# Altium schematic symbol library HW_ADHERENT_SYSCTRL_R1_L3.SchLib: 1629 symbols (part 30 of 31)
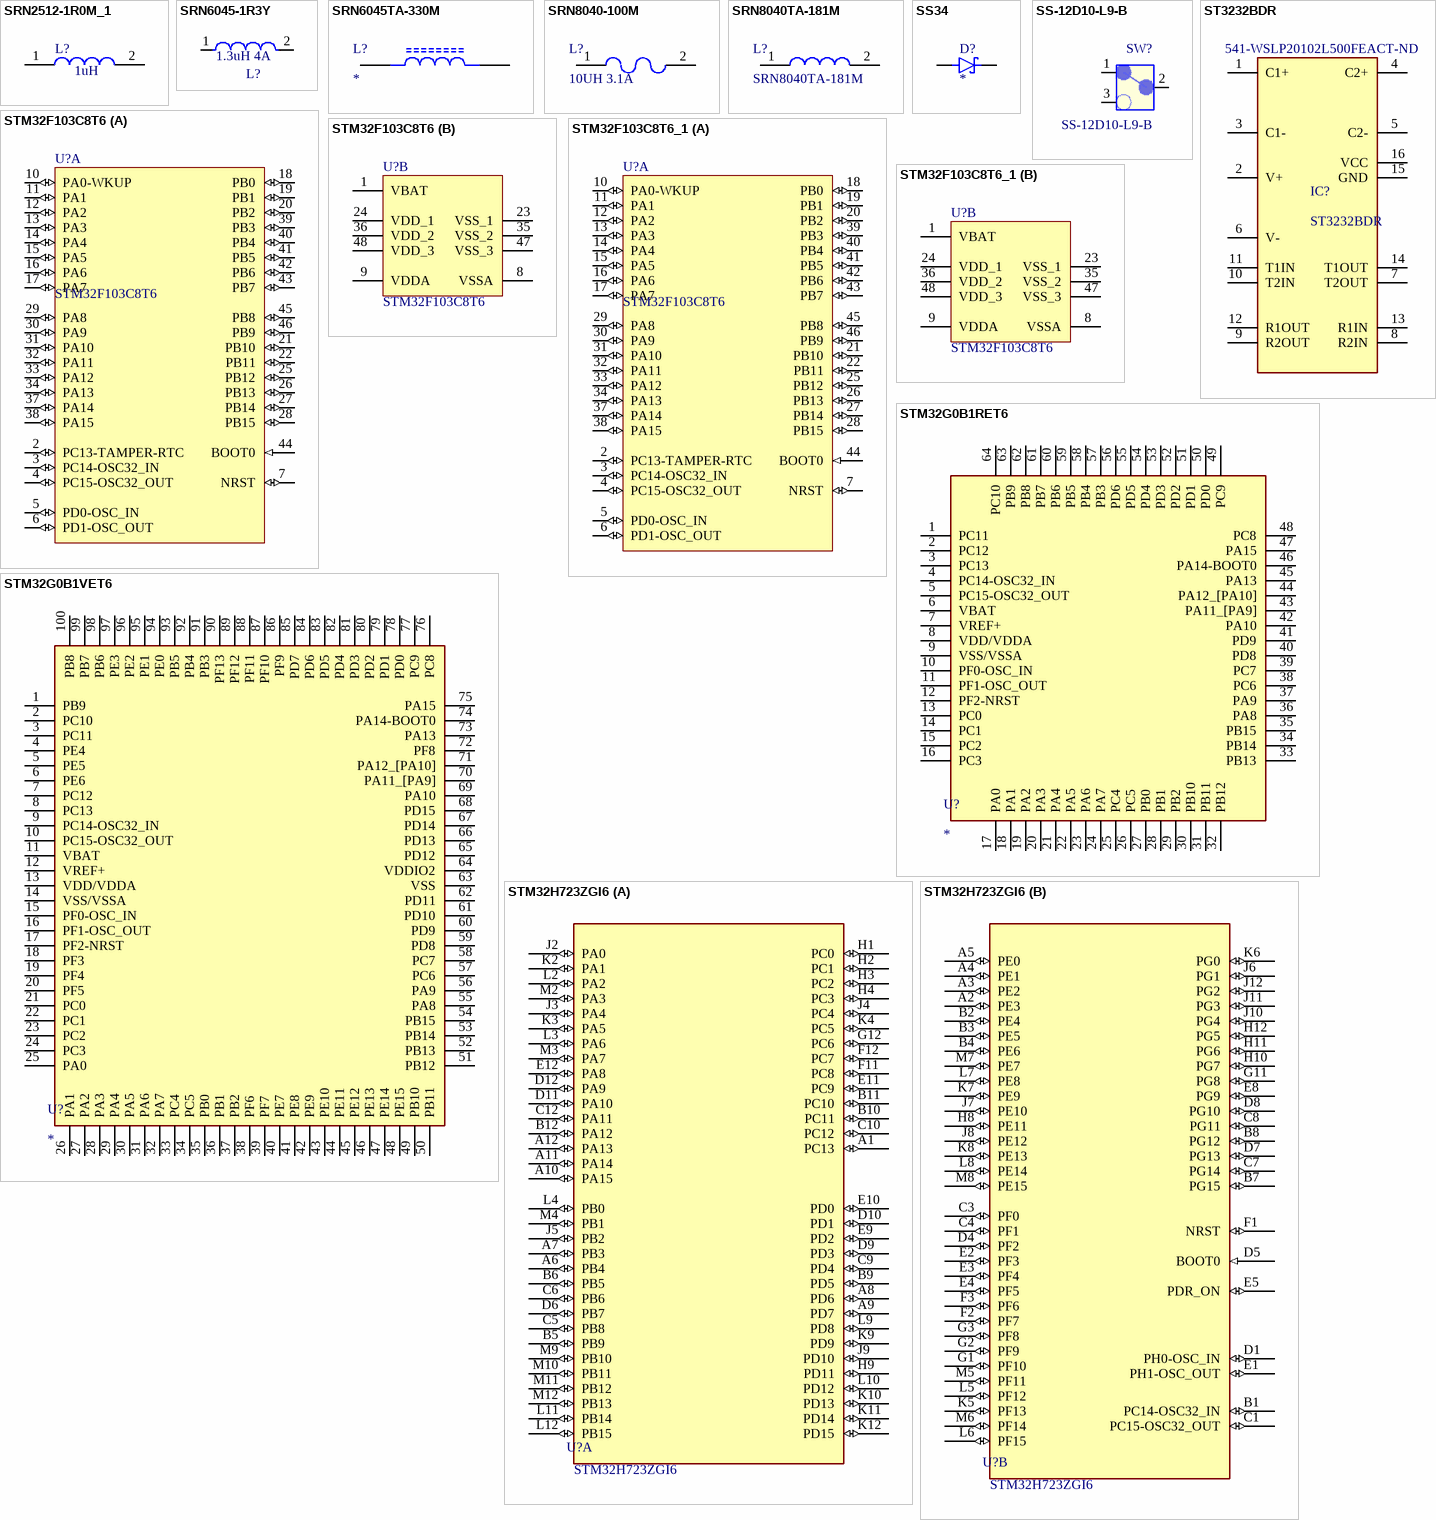
[diagram p80: symbols SRN2512-1R0M_1 to STM32H723ZGI6]

## STM32G0B1VET6
designator U?
ARM Mikrodenetleyiciler - MCU Mainstream Arm Cortex-M0+ 32-bit MCU, up to 512KB Flash, 144KB RAM; MPN: STM32G0B1VET6
footprint QFP50P1600X1600X160-100N/STM32G0B1VET6
pins: 1 PB9, 2 PC10, 3 PC11, 4 PE4, 5 PE5, 6 PE6, 7 PC12, 8 PC13, 9 PC14-OSC32_IN, 10 PC15-OSC32_OUT, 11 VBAT, 12 VREF+, 13 VDD/VDDA, 14 VSS/VSSA, 15 PF0-OSC_IN, 16 PF1-OSC_OUT, 17 PF2-NRST, 18 PF3, 19 PF4, 20 PF5, 21 PC0, 22 PC1, 23 PC2, 24 PC3, 25 PA0, 26 PA1, 27 PA2, 28 PA3, 29 PA4, 30 PA5, 31 PA6, 32 PA7, 33 PC4, 34 PC5, 35 PB0, 36 PB1, 37 PB2, 38 PF6, 39 PF7, 40 PE7, 41 PE8, 42 PE9, 43 PE10, 44 PE11, 45 PE12, 46 PE13, 47 PE14, 48 PE15, 49 PB10, 50 PB11, 51 PB12, 52 PB13, 53 PB14, 54 PB15, 55 PA8, 56 PA9, 57 PC6, 58 PC7, 59 PD8, 60 PD9, 61 PD10, 62 PD11, 63 VSS, 64 VDDIO2, 65 PD12, 66 PD13, 67 PD14, 68 PD15, 69 PA10, 70 PA11_[PA9], 71 PA12_[PA10], 72 PF8, 73 PA13, 74 PA14-BOOT0, 75 PA15, 76 PC8, 77 PC9, 78 PD0, 79 PD1, 80 PD2, 81 PD3, 82 PD4, 83 PD5, 84 PD6, 85 PD7, 86 PF9, 87 PF10, 88 PF11, 89 PF12, 90 PF13, 91 PB3, 92 PB4, 93 PB5, 94 PE0, 95 PE1, 96 PE2, 97 PE3, 98 PB6, 99 PB7, 100 PB8

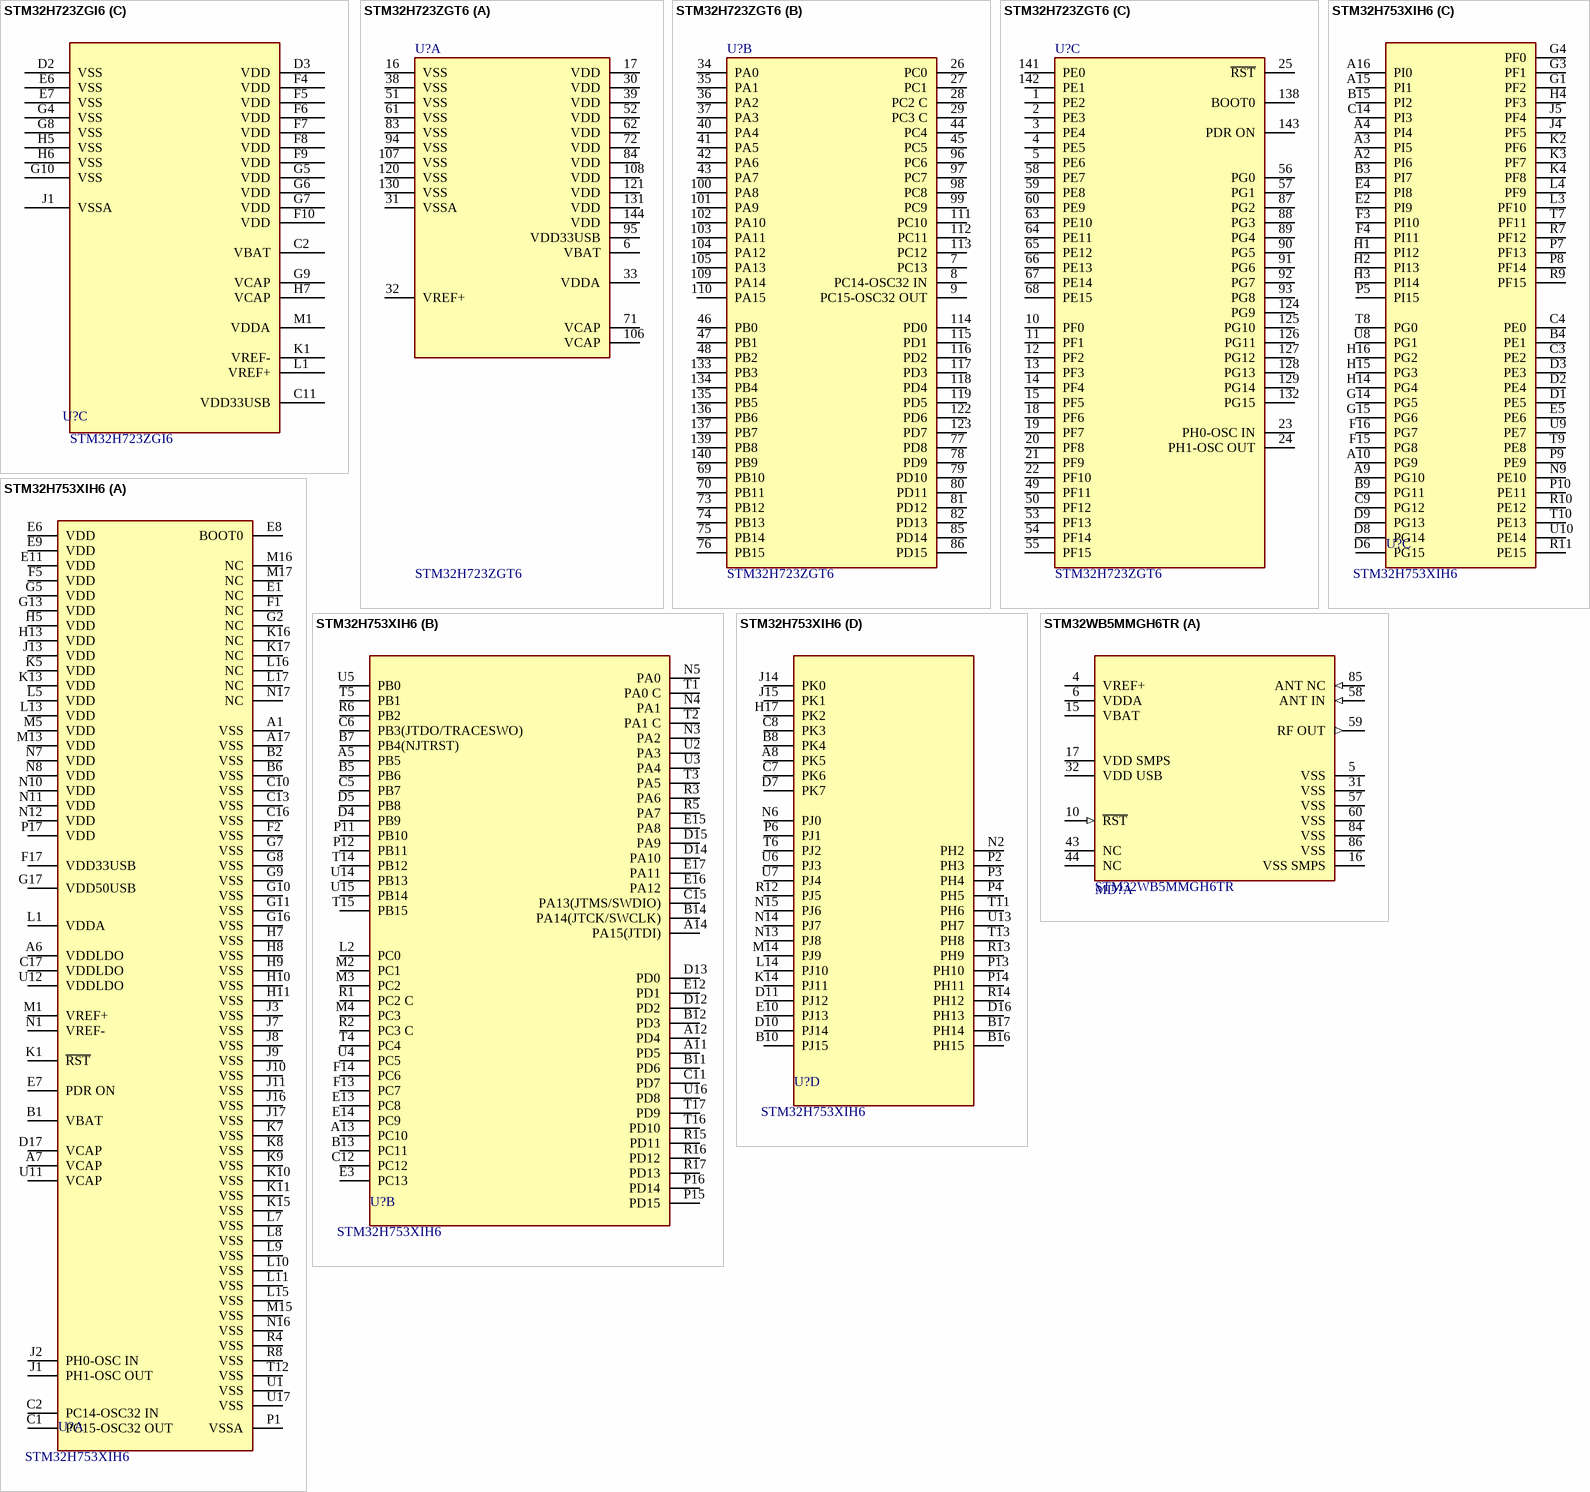
[diagram p45: symbols STM32H723ZGI6 to STM32WB5MMGH6TR]

## STM32H723ZGI6
designator U?, comment Manufacturer Part Number: STM32H723ZGI6  (hidden comment: IC MCU 32BIT 1MB FLASH 144UFBGA)
ARM® Cortex®-M7 STM32H7 Microcontroller IC 32-Bit Single-Core 550MHz 1MB (1M x 8) FLASH 144-UFBGA (7x7); Order Code: DIGI: 497-STM32H723ZGI6-ND
footprint UFBGA_144_7x7
part A pins: A1 PC13 (io), A6 PB4 (io), A7 PB3 (io), A8 PD6 (io), A9 PD7 (io), A10 PA15 (io), A11 PA14 (io), A12 PA13 (io), B5 PB9 (io), B6 PB5 (io), B9 PD5 (io), B10 PC11 (io), B11 PC10 (io), B12 PA12 (io), C5 PB8 (io), C6 PB6 (io), C9 PD4 (io), C10 PC12 (io), C12 PA11 (io), D6 PB7 (io), D9 PD3 (io), D10 PD1 (io), D11 PA10 (io), D12 PA9 (io), E9 PD2 (io), E10 PD0 (io), E11 PC9 (io), E12 PA8 (io), F11 PC8 (io), F12 PC7 (io), G12 PC6 (io), H1 PC0 (io), H2 PC1 (io), H3 PC2 (io), H4 PC3 (io), H9 PD11 (io), J2 PA0 (io), J3 PA4 (io), J4 PC4 (io), J5 PB2 (io), J9 PD10 (io), K2 PA1 (io), K3 PA5 (io), K4 PC5 (io), K9 PD9 (io), K10 PD13 (io), K11 PD14 (io), K12 PD15 (io), L2 PA2 (io), L3 PA6 (io), L4 PB0 (io), L9 PD8 (io), L10 PD12 (io), L11 PB14 (io), L12 PB15 (io), M2 PA3 (io), M3 PA7 (io), M4 PB1 (io), M9 PB10 (io), M10 PB11 (io), M11 PB12 (io), M12 PB13 (io)
part B pins: A2 PE3 (io), A3 PE2 (io), A4 PE1 (io), A5 PE0 (io), B1 PC14-OSC32_IN (io), B2 PE4 (io), B3 PE5 (io), B4 PE6 (io), B7 PG15 (io), B8 PG12 (io), C1 PC15-OSC32_OUT (io), C3 PF0 (io), C4 PF1 (io), C7 PG14 (io), C8 PG11 (io), D1 PH0-OSC_IN (io), D4 PF2 (io), D5 BOOT0 (in), D7 PG13 (io), D8 PG10 (io), E1 PH1-OSC_OUT (io), E2 PF3 (io), E3 PF4 (io), E4 PF5 (io), E5 PDR_ON (io), E8 PG9 (io), F1 NRST (io), F2 PF7 (io), F3 PF6 (io), G1 PF10 (io), G2 PF9 (io), G3 PF8 (io), G11 PG8 (io), H8 PE11 (io), H10 PG7 (io), H11 PG6 (io), H12 PG5 (io), J6 PG1 (io), J7 PE10 (io), J8 PE12 (io), J10 PG4 (io), J11 PG3 (io), J12 PG2 (io), K5 PF13 (io), K6 PG0 (io), K7 PE9 (io), K8 PE13 (io), L5 PF12 (io), L6 PF15 (io), L7 PE8 (io), L8 PE14 (io), M5 PF11 (io), M6 PF14 (io), M7 PE7 (io), M8 PE15 (io)
part C pins: C2 VBAT (power), C11 VDD33USB (power), D2 VSS (power), D3 VDD (power), E6 VSS (power), E7 VSS (power), F4 VDD (power), F5 VDD (power), F6 VDD (power), F7 VDD (power), F8 VDD (power), F9 VDD (power), F10 VDD (power), G4 VSS (power), G5 VDD (power), G6 VDD (power), G7 VDD (power), G8 VSS (power), G9 VCAP (power), G10 VSS (power), H5 VSS (power), H6 VSS (power), H7 VCAP (power), J1 VSSA (power), K1 VREF- (power), L1 VREF+ (power), M1 VDDA (power)

## STM32H723ZGT6
designator U?
ARM® Cortex®-M7 STM32H7 Microcontroller IC 32-Bit Single-Core 550MHz 1MB (1M x 8) FLASH 144-LQFP (20x20); Manufacturer Name: STMicroelectronics; Manufacturer Part Number: STM32H723ZGT6
footprint STMicroelectronics_LQFP144-1A_IPC_C
part A pins: 6 VBAT (power), 16 VSS (power), 17 VDD (power), 30 VDD (power), 31 VSSA (power), 32 VREF+ (power), 33 VDDA (power), 38 VSS (power), 39 VDD (power), 51 VSS (power), 52 VDD (power), 61 VSS (power), 62 VDD (power), 71 VCAP (power), 72 VDD (power), 83 VSS (power), 84 VDD (power), 94 VSS (power), 95 VDD33USB (power), 106 VCAP (power), 107 VSS (power), 108 VDD (power), 120 VSS (power), 121 VDD (power), 130 VSS (power), 131 VDD (power), 144 VDD (power)
part B pins: 7 PC13, 8 PC14-OSC32 IN, 9 PC15-OSC32 OUT, 26 PC0, 27 PC1, 28 PC2 C, 29 PC3 C, 34 PA0, 35 PA1, 36 PA2, 37 PA3, 40 PA4, 41 PA5, 42 PA6, 43 PA7, 44 PC4, 45 PC5, 46 PB0, 47 PB1, 48 PB2, 69 PB10, 70 PB11, 73 PB12, 74 PB13, 75 PB14, 76 PB15, 77 PD8, 78 PD9, 79 PD10, 80 PD11, 81 PD12, 82 PD13, 85 PD14, 86 PD15, 96 PC6, 97 PC7, 98 PC8, 99 PC9, 100 PA8, 101 PA9, 102 PA10, 103 PA11, 104 PA12, 105 PA13, 109 PA14, 110 PA15, 111 PC10, 112 PC11, 113 PC12, 114 PD0, 115 PD1, 116 PD2, 117 PD3, 118 PD4, 119 PD5, 122 PD6, 123 PD7, 133 PB3, 134 PB4, 135 PB5, 136 PB6, 137 PB7, 139 PB8, 140 PB9
part C pins: 1 PE2, 2 PE3, 3 PE4, 4 PE5, 5 PE6, 10 PF0, 11 PF1, 12 PF2, 13 PF3, 14 PF4, 15 PF5, 18 PF6, 19 PF7, 20 PF8, 21 PF9, 22 PF10, 23 PH0-OSC IN, 24 PH1-OSC OUT, 25 ~{RST}, 49 PF11, 50 PF12, 53 PF13, 54 PF14, 55 PF15, 56 PG0, 57 PG1, 58 PE7, 59 PE8, 60 PE9, 63 PE10, 64 PE11, 65 PE12, 66 PE13, 67 PE14, 68 PE15, 87 PG2, 88 PG3, 89 PG4, 90 PG5, 91 PG6, 92 PG7, 93 PG8, 124 PG9, 125 PG10, 126 PG11, 127 PG12, 128 PG13, 129 PG14, 132 PG15, 138 BOOT0, 141 PE0, 142 PE1, 143 PDR ON

## STM32H753XIH6
designator U?, comment Manufacturer Part Number: STM32H753XIH6  (hidden comment: IC MCU 32BIT 2MB FLASH TFBGA)
ARM® Cortex®-M7 STM32H7 Microcontroller IC 32-Bit Single-Core 480MHz 2MB (2M x 8) FLASH 240+25-TFBGA (14x14); Order Code: DIGI: 497-18567-ND
footprint STMicroelectronics_TFBGA240+25-A07U_IPC_A
footprint STMicroelectronics_TFBGA240+25-A07U_IPC_B
footprint STMicroelectronics_TFBGA240+25-A07U_IPC_C
footprint STMicroelectronics_TFBGA240+25-A07U_MFG
part A pins: A1 VSS, A6 VDDLDO, A7 VCAP, A17 VSS, B1 VBAT, B2 VSS, B6 VSS, C1 PC15-OSC32 OUT, C2 PC14-OSC32 IN, C10 VSS, C13 VSS, C16 VSS, C17 VDDLDO, D17 VCAP, E1 NC, E6 VDD, E7 PDR ON, E8 BOOT0, E9 VDD, E11 VDD, F1 NC, F2 VSS, F5 VDD, F17 VDD33USB, G2 NC, G5 VDD, G7 VSS, G8 VSS, G9 VSS, G10 VSS, G11 VSS, G13 VDD, G16 VSS, G17 VDD50USB, H5 VDD, H7 VSS, H8 VSS, H9 VSS, H10 VSS, H11 VSS, H13 VDD, J1 PH1-OSC OUT, J2 PH0-OSC IN, J3 VSS, J7 VSS, J8 VSS, J9 VSS, J10 VSS, J11 VSS, J13 VDD, J16 VSS, J17 VSS, K1 ~{RST}, K5 VDD, K7 VSS, K8 VSS, K9 VSS, K10 VSS, K11 VSS, K13 VDD, K15 VSS, K16 NC, K17 NC, L1 VDDA, L5 VDD, L7 VSS, L8 VSS, L9 VSS, L10 VSS, L11 VSS, L13 VDD, L15 VSS, L16 NC, L17 NC, M1 VREF+, M5 VDD, M13 VDD, M15 VSS, M16 NC, M17 NC, N1 VREF-, N7 VDD, N8 VDD, N10 VDD, N11 VDD, N12 VDD, N16 VSS, N17 NC, P1 VSSA, P17 VDD, R4 VSS, R8 VSS, T12 VSS, U1 VSS, U11 VCAP, U12 VDDLDO, U17 VSS
part B pins: A5 PB5, A11 PD5, A12 PD4, A13 PC10, A14 PA15(JTDI), B5 PB6, B7 PB4(NJTRST), B11 PD6, B12 PD3, B13 PC11, B14 PA14(JTCK/SWCLK), C5 PB7, C6 PB3(JTDO/TRACESWO), C11 PD7, C12 PC12, C15 PA13(JTMS/SWDIO), D4 PB9, D5 PB8, D12 PD2, D13 PD0, D14 PA10, D15 PA9, E3 PC13, E12 PD1, E13 PC8, E14 PC9, E15 PA8, E16 PA12, E17 PA11, F13 PC7, F14 PC6, L2 PC0, M2 PC1, M3 PC2, M4 PC3, N3 PA2, N4 PA1, N5 PA0, P11 PB10, P12 PB11, P15 PD15, P16 PD14, R1 PC2 C, R2 PC3 C, R3 PA6, R5 PA7, R6 PB2, R15 PD11, R16 PD12, R17 PD13, T1 PA0 C, T2 PA1 C, T3 PA5, T4 PC4, T5 PB1, T14 PB12, T15 PB15, T16 PD10, T17 PD9, U2 PA3, U3 PA4, U4 PC5, U5 PB0, U14 PB13, U15 PB14, U16 PD8
part C pins: A2 PI6, A3 PI5, A4 PI4, A9 PG10, A10 PG9, A15 PI1, A16 PI0, B3 PI7, B4 PE1, B9 PG11, B15 PI2, C3 PE2, C4 PE0, C9 PG12, C14 PI3, D1 PE5, D2 PE4, D3 PE3, D6 PG15, D8 PG14, D9 PG13, E2 PI9, E4 PI8, E5 PE6, F3 PI10, F4 PI11, F15 PG8, F16 PG7, G1 PF2, G3 PF1, G4 PF0, G14 PG5, G15 PG6, H1 PI12, H2 PI13, H3 PI14, H4 PF3, H14 PG4, H15 PG3, H16 PG2, J4 PF5, J5 PF4, K2 PF6, K3 PF7, K4 PF8, L3 PF10, L4 PF9, N9 PE10, P5 PI15, P7 PF13, P8 PF14, P9 PE9, P10 PE11, R7 PF12, R9 PF15, R10 PE12, R11 PE15, T7 PF11, T8 PG0, T9 PE8, T10 PE13, U8 PG1, U9 PE7, U10 PE14
part D pins: A8 PK5, B8 PK4, B10 PJ15, B16 PH15, B17 PH14, C7 PK6, C8 PK3, D7 PK7, D10 PJ14, D11 PJ12, D16 PH13, E10 PJ13, H17 PK2, J14 PK0, J15 PK1, K14 PJ11, L14 PJ10, M14 PJ9, N2 PH2, N6 PJ0, N13 PJ8, N14 PJ7, N15 PJ6, P2 PH3, P3 PH4, P4 PH5, P6 PJ1, P13 PH10, P14 PH11, R12 PJ5, R13 PH9, R14 PH12, T6 PJ2, T11 PH6, T13 PH8, U6 PJ3, U7 PJ4, U13 PH7

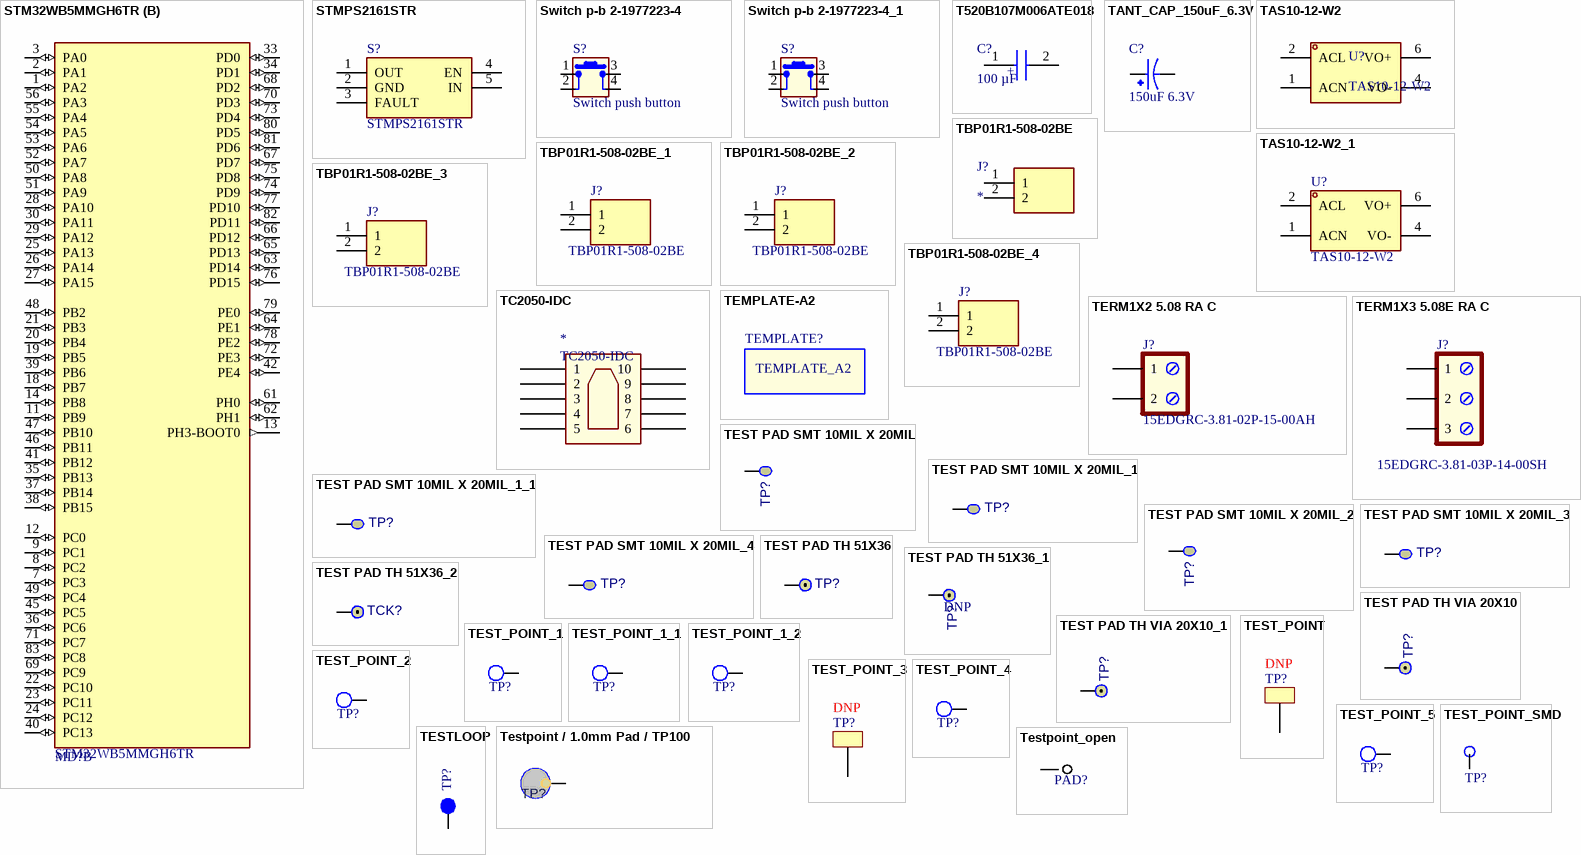
[diagram p46: symbols STM32WB5MMGH6TR to Testpoint_open]

## STM32WB5MMGH6TR
designator MD?, comment Manufacturer Part Number: STM32WB5MMGH6TR  (hidden comment: RF TXRX MODULE BT CHIP SMD)
802.15.4, Bluetooth Bluetooth v5.0, Thread, Zigbee® Transceiver Module 2.4GHz Integrated, Chip Surface Mount; Order Code: DIGI: 497-STM32WB5MMGH6TR-ND
footprint STMicroelectronics_STM32WB5MMGH6TR
part A pins: 4 VREF+ (power), 5 VSS (power), 6 VDDA (power), 10 ~{RST} (in), 15 VBAT (power), 16 VSS SMPS (power), 17 VDD SMPS (power), 31 VSS (power), 32 VDD USB (power), 43 NC, 44 NC, 57 VSS (power), 58 ANT IN (in), 59 RF OUT (out), 60 VSS (power), 84 VSS (power), 85 ANT NC (in), 86 VSS (power)
part B pins: 1 PA2 (io), 2 PA1 (io), 3 PA0 (io), 7 PC3 (io), 8 PC2 (io), 9 PC1 (io), 11 PB9 (io), 12 PC0 (io), 13 PH3-BOOT0 (out), 14 PB8 (io), 18 PB7 (io), 19 PB5 (io), 20 PB4 (io), 21 PB3 (io), 22 PC10 (io), 23 PC11 (io), 24 PC12 (io), 25 PA13 (io), 26 PA14 (io), 27 PA15 (io), 28 PA10 (io), 29 PA12 (io), 30 PA11 (io), 33 PD0 (io), 34 PD1 (io), 35 PB13 (io), 36 PC6 (io), 37 PB14 (io), 38 PB15 (io), 39 PB6 (io), 40 PC13 (io), 41 PB12 (io), 42 PE4 (io), 45 PC5 (io), 46 PB11 (io), 47 PB10 (io), 48 PB2 (io), 49 PC4 (io), 50 PA8 (io), 51 PA9 (io), 52 PA7 (io), 53 PA6 (io), 54 PA5 (io), 55 PA4 (io), 56 PA3 (io), 61 PH0 (io), 62 PH1 (io), 63 PD14 (io), 64 PE1 (io), 65 PD13 (io), 66 PD12 (io), 67 PD7 (io), 68 PD2 (io), 69 PC9 (io), 70 PD3 (io), 71 PC7 (io), 72 PE3 (io), 73 PD4 (io), 74 PD9 (io), 75 PD8 (io), 76 PD15 (io), 77 PD10 (io), 78 PE2 (io), 79 PE0 (io), 80 PD5 (io), 81 PD6 (io), 82 PD11 (io), 83 PC8 (io)

## STMPS2161STR
designator S?
Switch; Manufacturer_Name: STMicroelectronics; Datasheet Link: https://componentsearchengine.com/Datasheets/2/STMPS2161STR.pdf; Height: 1.45mm; Manufacturer_Part_Number: STMPS2161STR
footprint SOT95P280X145-5N
pins: 1 OUT, 2 GND, 3 FAULT, 4 EN, 5 IN

## Switch p-b 2-1977223-4
designator S?, comment value Switch push button  (hidden comment: 2-1977223-4)
SPST-NO; Manufacturer: TE Connectivity ALCOSWITCH Switches; Manufacturer Part Number: 2-1977223-4; Supplier Part Number: 450-2135-1-ND
footprint SMD 6.0X6.0X9.5MM
pins: 1, 2, 3, 4

## Switch p-b 2-1977223-4_1
designator S?, comment value Switch push button  (hidden comment: 2-1977223-4)
SPST-NO; Manufacturer: TE Connectivity ALCOSWITCH Switches; Manufacturer Part Number: 2-1977223-4; Supplier Part Number: 450-2135-1-ND
footprint SMD 6.0X6.0X9.5MM
pins: 1, 2, 3, 4

## T520B107M006ATE018
designator C?, comment 100 µF
100 µF Molded Tantalum Polymer Capacitor 6.3 V 1411 (3528 Metric) 18mOhm @ 100kHz; Manufacturer_Name: KEMET; Manufacturer_Part_Number: T520B107M006ATE018; Datasheet Link: https://content.kemet.com/datasheets/KEM_T2076_T52X-530.pdf; Height: 2mm; Mouser Part Number: 80-T520B107M6ATE18; Mouser Price/Stock: https://www.mouser.co.uk/ProductDetail/KEMET/T520B107M006ATE018?qs=OJGUyRWaYtMV0BsRKcV0Ug%3D%3D; Arrow Part Number: T520B107M006ATE018; Arrow Price/Stock: https://www.arrow.com/en/products/t520b107m006ate018/kemet-corporation?region=nac
footprint T520B
pins: 1 +, 2 -

## TANT_CAP_150uF_6.3V
designator C?, comment value 150uF 6.3V  (hidden comment: CAP TANT POLY 150UF 6.3V 1411)
150 µF Molded Tantalum Polymer Capacitor 6.3 V 1411 (3528 Metric) 70mOhm @ 100kHz; Manufacturer Part Number: 6TPG150M; Availability: Unavailable; Price: None; Package: None
footprint CAP_6TPG150M
pins: 1, 2

## TAS10-12-W2
designator U?
12V 830mA 85VAC~265VAC 100V~370V 10W Step-down type AC/DC-DC 85% Plugin,25x39mm AC-DC Power Modules ROHS; MF: TDPOWER; MP: TAS10-12-W2; Manufacturer Part Number: TAS10-12-W2; LCSC: C2687656; ComponentLink1Description: New link; ComponentLink1URL: https://www.lcsc.com/product-detail/Power-Modules_TDPOWER-TAS10-12-W2_C2687656.html
footprint TAS10-12-W2
pins: 1 ACN, 2 ACL, 4 VO-, 6 VO+

## TAS10-12-W2_1
designator U?, comment TAS10-12-W2
12V 830mA 85VAC~265VAC 100V~370V 10W Step-down type AC/DC-DC 85% Plugin,25x39mm AC-DC Power Modules ROHS; MF: TDPOWER; MP: TAS10-12-W2; Manufacturer Part Number: TAS10-12-W2; LCSC: C2687656; ComponentLink1Description: New link; ComponentLink1URL: https://www.lcsc.com/product-detail/Power-Modules_TDPOWER-TAS10-12-W2_C2687656.html
footprint TAS10-12-W2
pins: 1 ACN, 2 ACL, 4 VO-, 6 VO+

## TBP01R1-508-02BE
designator J?
Connector; Manufacturer_Name: CUI Devices; Manufacturer_Part_Number: TBP01R1-508-02BE; Datasheet Link: https://componentsearchengine.com/Datasheets/1/TBP01R1-508-02BE.pdf; Height: 8.5mm; Mouser Part Number: 490-TBP01R1-508-02BE; Mouser Price/Stock: https://www.mouser.co.uk/ProductDetail/CUI-Devices/TBP01R1-508-02BE?qs=PzGy0jfpSMuT8jxfc02aCw%3D%3D; Arrow Part Number: TBP01R1-508-02BE; Arrow Price/Stock: https://www.arrow.com/en/products/tbp01r1-508-02be/cui-devices?region=nac
footprint TBP01R150802BE
pins: 1, 2

## TBP01R1-508-02BE_1
designator J?, comment TBP01R1-508-02BE
Connector; Manufacturer_Name: CUI Devices; Datasheet Link: https://componentsearchengine.com/Datasheets/1/TBP01R1-508-02BE.pdf; Height: 8.5mm; Manufacturer_Part_Number: TBP01R1-508-02BE; Mouser Part Number: 490-TBP01R1-508-02BE; Mouser Price/Stock: https://www.mouser.co.uk/ProductDetail/CUI-Devices/TBP01R1-508-02BE?qs=PzGy0jfpSMuT8jxfc02aCw%3D%3D; Arrow Part Number: TBP01R1-508-02BE; Arrow Price/Stock: https://www.arrow.com/en/products/tbp01r1-508-02be/cui-devices?region=nac
footprint TBP01R150802BE
pins: 1, 2

## TBP01R1-508-02BE_2
designator J?, comment TBP01R1-508-02BE
Connector; Manufacturer_Name: CUI Devices; Datasheet Link: https://componentsearchengine.com/Datasheets/1/TBP01R1-508-02BE.pdf; Height: 8.5mm; Manufacturer_Part_Number: TBP01R1-508-02BE; Mouser Part Number: 490-TBP01R1-508-02BE; Mouser Price/Stock: https://www.mouser.co.uk/ProductDetail/CUI-Devices/TBP01R1-508-02BE?qs=PzGy0jfpSMuT8jxfc02aCw%3D%3D; Arrow Part Number: TBP01R1-508-02BE; Arrow Price/Stock: https://www.arrow.com/en/products/tbp01r1-508-02be/cui-devices?region=nac
footprint TBP01R150802BE
pins: 1, 2

## TBP01R1-508-02BE_3
designator J?, comment TBP01R1-508-02BE
Connector; Manufacturer_Name: CUI Devices; Datasheet Link: https://componentsearchengine.com/Datasheets/1/TBP01R1-508-02BE.pdf; Height: 8.5mm; Manufacturer_Part_Number: TBP01R1-508-02BE; Mouser Part Number: 490-TBP01R1-508-02BE; Mouser Price/Stock: https://www.mouser.co.uk/ProductDetail/CUI-Devices/TBP01R1-508-02BE?qs=PzGy0jfpSMuT8jxfc02aCw%3D%3D; Arrow Part Number: TBP01R1-508-02BE; Arrow Price/Stock: https://www.arrow.com/en/products/tbp01r1-508-02be/cui-devices?region=nac
footprint TBP01R150802BE
pins: 1, 2

## TBP01R1-508-02BE_4
designator J?, comment TBP01R1-508-02BE
Connector; Manufacturer_Name: CUI Devices; Datasheet Link: https://componentsearchengine.com/Datasheets/1/TBP01R1-508-02BE.pdf; Height: 8.5mm; Manufacturer_Part_Number: TBP01R1-508-02BE; Mouser Part Number: 490-TBP01R1-508-02BE; Mouser Price/Stock: https://www.mouser.co.uk/ProductDetail/CUI-Devices/TBP01R1-508-02BE?qs=PzGy0jfpSMuT8jxfc02aCw%3D%3D; Arrow Part Number: TBP01R1-508-02BE; Arrow Price/Stock: https://www.arrow.com/en/products/tbp01r1-508-02be/cui-devices?region=nac
footprint TBP01R150802BE
pins: 1, 2

## TC2050-IDC
designator *
footprint TC2050-IDC (Footprint not found)
pins: 1, 2, 3, 4, 5, 6, 7, 8, 9, 10

## TEMPLATE-A2
designator TEMPLATE?, comment TEMPLATE_A2
Manufacturer: MYIR; PCB Footprint: TEMPLATE-A2; Myir P/N: 21122.00032XN; Reserve Value: TEMPLATE_A2; Manufacturer P/N: TEMPLATE_A2; Part Type: Other
footprint TEMPLATE-A2
pins: 1

## TERM1X2 5.08 RA C
designator J?, comment 15EDGRC-3.81-02P-15-00AH
TERM BLOCK MALE 1X2POS 5.08MM SHRD4 RA THR; Manufacturer: DEGSON; Manufacturer Part Name: 15EDGRC-3.81-02P-15-00AH; Supplier: OZDISAN; Supplier No: 15EDGRC-3.81-02P-15-00AH; Value: 15EDGRC-3.81-02P-15-00AH
footprint 15EDGRC-3.81-02P-15-00AH
pins: 1, 2

## TERM1X3 5.08E RA C
designator J?, comment 15EDGRC-3.81-03P-14-00SH
TERM BLOCK MALE 1X3POS 5.08MM SHRD4 RA THR; Manufacturer: DEGSON; Manufacturer Part Name: 15EDGRC-3.81-03P-14-00SH; Supplier: OZDISAN; Supplier No: 15EDGRC-3.81-03P-14-00SH; Value: 15EDGRC-3.81-03P-14-00SH
footprint 15EDGRC-3.81-03P-14-00SH
pins: 1, 2, 3

## TEST PAD SMT 10MIL X 20MIL
designator TP?, comment Testpoint  (value not drawn)  (no BOM)
DNP: DNP; Value: Testpoint
footprint SMD_Ø1.5mm
pins: 1 P1

## TEST PAD SMT 10MIL X 20MIL_1
designator TP?, comment Testpoint  (value not drawn)  (no BOM)
DNP: DNP; Value: Testpoint
footprint SMD_Ø1.5mm
pins: 1 P1

## TEST PAD SMT 10MIL X 20MIL_1_1
designator TP?, comment Testpoint  (value not drawn)  (no BOM)
DNP: DNP; Value: Testpoint
footprint SMD_Ø1.5mm
pins: 1 P1

## TEST PAD SMT 10MIL X 20MIL_2
designator TP?, comment Testpoint  (value not drawn)  (no BOM)
DNP: DNP; Value: Testpoint
footprint SMD_1P5mm (Footprint not found)
pins: 1 P1

## TEST PAD SMT 10MIL X 20MIL_3
designator TP?, comment Testpoint  (value not drawn)  (no BOM)
DNP: DNP; Value: Testpoint
footprint SMD_Ø1.5mm
pins: 1 P1

## TEST PAD SMT 10MIL X 20MIL_4
designator TP?, comment Testpoint  (value not drawn)  (no BOM)
DNP: DNP; Value: Testpoint
footprint SMD_Ø1.5mm
pins: 1 P1

## TEST PAD TH 51X36
designator TP?, comment Testpoint  (value not drawn)  (no BOM)
DNP: DNP; Value: Testpoint
footprint SMD_1P5mm
pins: 1 P1

## TEST PAD TH 51X36_1
designator TP?, comment Populated: DNP  (hidden comment: Jumper)  (no BOM)
Test Pad TH 51X36; Manufacturer Part Number: none; Description_: TEST Pad, PIN sized, 51pad, 36 FHS; Manufacturer: none; Category: Non BOM Item; Type: Male; Mounting Type: Through Hole; Supplier 1: none; Supplier Part Number 1: none
footprint TP_PAD51D36 (TEST POINT, PLATED THRU HOLE PAD51_DRILL36)
pins: 1 P1

## TEST PAD TH 51X36_2
designator TCK?, comment Testpoint  (value not drawn)  (no BOM)
DNP: DNP; Value: Testpoint
footprint SMD_1P5mm (Footprint not found)
pins: 1 P1

## TEST PAD TH VIA 20X10
designator TP?, comment Testpoint  (value not drawn)  (no BOM)
DNP: DNP; Value: Testpoint
footprint SMD_Ø1.5mm
pins: 1 P1

## TEST PAD TH VIA 20X10_1
designator TP?, comment Testpoint  (value not drawn)  (no BOM)
DNP: DNP; Value: Testpoint
footprint SMD_1P5mm (Footprint not found)
pins: 1 P1

## TEST_POINT
designator TP?, comment Testpoint  (value not drawn)
Value: Testpoint; DNP: DNP
footprint SMD_Ø1.5mm
pins: 1 (power)

## TEST_POINT_1
designator TP?, comment TEST_POINT  (value not drawn)  (no BOM)
footprint TEST_POINT_TH
pins: 1

## TEST_POINT_1_1
designator TP?, comment TEST_POINT  (value not drawn)  (no BOM)
footprint TEST_POINT_TH
pins: 1

## TEST_POINT_1_2
designator TP?, comment TEST_POINT  (value not drawn)  (no BOM)
footprint TEST_POINT
footprint TEST_POINT_TH
pins: 1

## TEST_POINT_2
designator TP?, comment TEST_POINT  (value not drawn)  (no BOM)
footprint TEST_POINT
footprint TEST_POINT_TH
pins: 1

## TEST_POINT_3
designator TP?, comment Testpoint  (value not drawn)
Value: Testpoint; DNP: DNP
footprint SMD_1P5mm (Footprint not found)
pins: 1 (power)

## TEST_POINT_4
designator TP?, comment TEST_POINT  (value not drawn)  (no BOM)
footprint TEST_POINT
footprint TEST_POINT_TH
pins: 1

## TEST_POINT_5
designator TP?, comment TEST_POINT  (value not drawn)  (no BOM)
footprint TEST_POINT
footprint TEST_POINT_TH
pins: 1

## TEST_POINT_SMD
designator TP?, comment Test Point  (value not drawn)
footprint TEST_POINT_SMD
pins: 1

## TESTLOOP
designator TP?, comment tpad_020  (value not drawn)
TEST POINT PAD 0.5MM DIA SMT, NO PART TO ORDER; CLASS: IO; CAD_APPROVED: Yes; AGILE_PN: 211-77484; HEIGHT: 0.1MM; ROHS: Yes; PCB Footprint: tpad_020
footprint tpad_020
pins: 1 Pin1

## Testpoint / 1.0mm Pad / TP100
designator TP?, comment Testpoint  (value not drawn)  (no BOM)
Testpoint / 2.0mm Pad / TP200; Value: Testpoint; DNP: DNP
footprint SMD_1P5mm (Footprint not found)
pins: 1 TP "test point"

## Testpoint_open
designator PAD?, comment Testpoint  (value not drawn)
Rule: UNIONINDEX{}0[]RULEKIND{}FabricationTestpoint[]NETSCOPE{}AnyNet[]LAYERKIND{}SameLayer[]NAME{}Schematic Fabrication Testpoint Style[]SIDE{}2[]TESTPOINTUNDERCOMPONENT{}TRUE[]MINSIZE{}40mil[]MAXSIZE{}100mil[]PREFEREDSIZE{}60mil[]MINHOLESIZE{}31.4961mil[]MAXHOLESIZE{}39.3701mil[]PREFEREDHOLESIZE{}35.4331mil[]TESTPOINTGRID{}1mil[]ALLOWSIDEBOTTOM{}TRUE[]USEGRID{}TRUE[]GRIDTOLERANCE{}0.01mil[]UNIT{}Metric[]PcbType{}ProtelPcb; Value: Testpoint; DNP: DNP
footprint TP_TH_3MM
pins: 1

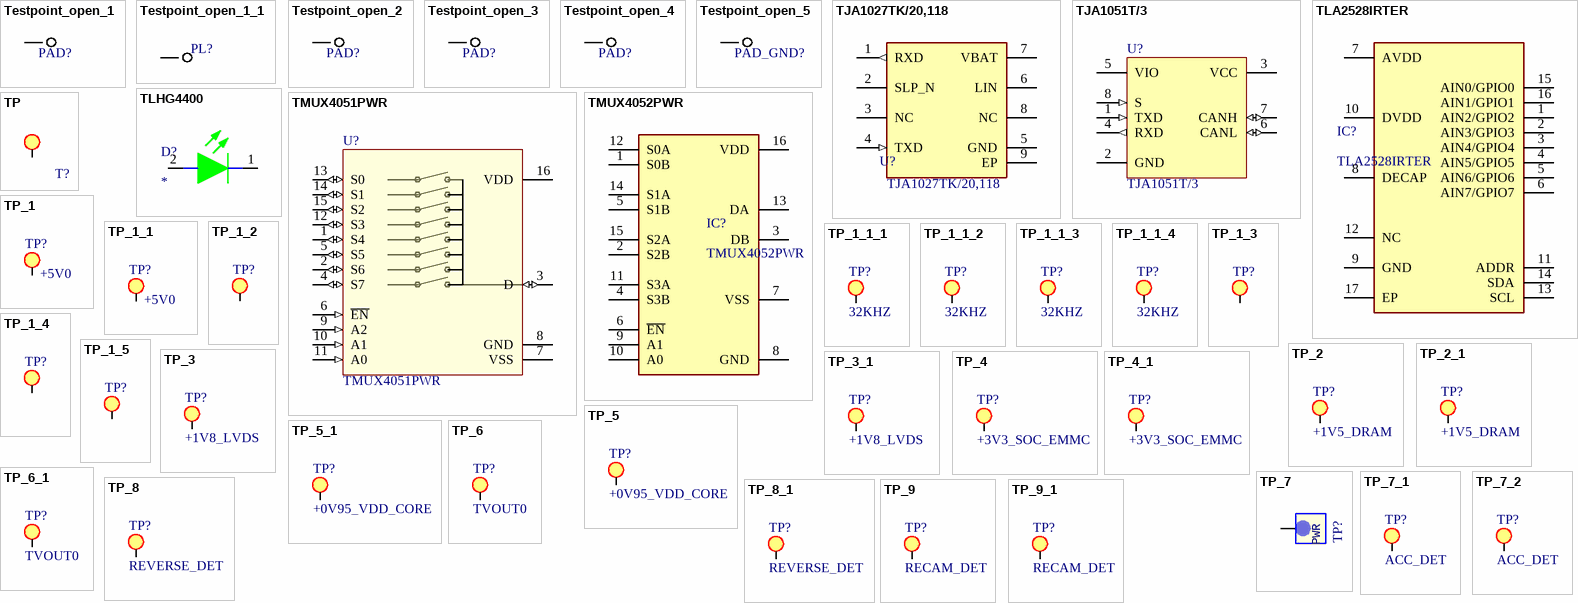
[diagram p47: symbols Testpoint_open_1 to TP_9_1]

## Testpoint_open_1
designator PAD?, comment Testpoint  (value not drawn)
Rule: UNIONINDEX{}0[]RULEKIND{}FabricationTestpoint[]NETSCOPE{}AnyNet[]LAYERKIND{}SameLayer[]NAME{}Schematic Fabrication Testpoint Style[]SIDE{}2[]TESTPOINTUNDERCOMPONENT{}TRUE[]MINSIZE{}40mil[]MAXSIZE{}100mil[]PREFEREDSIZE{}60mil[]MINHOLESIZE{}31.4961mil[]MAXHOLESIZE{}39.3701mil[]PREFEREDHOLESIZE{}35.4331mil[]TESTPOINTGRID{}1mil[]ALLOWSIDEBOTTOM{}TRUE[]USEGRID{}TRUE[]GRIDTOLERANCE{}0.01mil[]UNIT{}Metric[]PcbType{}ProtelPcb; Value: Testpoint; DNP: DNP
footprint TP_TH_3MM
pins: 1

## Testpoint_open_1_1
designator PL?, comment Testpoint  (value not drawn)
Rule: UNIONINDEX{}0[]RULEKIND{}FabricationTestpoint[]NETSCOPE{}AnyNet[]LAYERKIND{}SameLayer[]NAME{}Schematic Fabrication Testpoint Style[]SIDE{}2[]TESTPOINTUNDERCOMPONENT{}TRUE[]MINSIZE{}40mil[]MAXSIZE{}100mil[]PREFEREDSIZE{}60mil[]MINHOLESIZE{}31.4961mil[]MAXHOLESIZE{}39.3701mil[]PREFEREDHOLESIZE{}35.4331mil[]TESTPOINTGRID{}1mil[]ALLOWSIDEBOTTOM{}TRUE[]USEGRID{}TRUE[]GRIDTOLERANCE{}0.01mil[]UNIT{}Metric[]PcbType{}ProtelPcb; Value: Testpoint; DNP: DNP
footprint TP_TH_3MM
pins: 1

## Testpoint_open_2
designator PAD?, comment Testpoint  (value not drawn)
Rule: UNIONINDEX{}0[]RULEKIND{}FabricationTestpoint[]NETSCOPE{}AnyNet[]LAYERKIND{}SameLayer[]NAME{}Schematic Fabrication Testpoint Style[]SIDE{}2[]TESTPOINTUNDERCOMPONENT{}TRUE[]MINSIZE{}40mil[]MAXSIZE{}100mil[]PREFEREDSIZE{}60mil[]MINHOLESIZE{}31.4961mil[]MAXHOLESIZE{}39.3701mil[]PREFEREDHOLESIZE{}35.4331mil[]TESTPOINTGRID{}1mil[]ALLOWSIDEBOTTOM{}TRUE[]USEGRID{}TRUE[]GRIDTOLERANCE{}0.01mil[]UNIT{}Metric[]PcbType{}ProtelPcb; Value: Testpoint; DNP: DNP
footprint TP_TH_3MM
pins: 1

## Testpoint_open_3
designator PAD?, comment Testpoint  (value not drawn)
Rule: UNIONINDEX{}0[]RULEKIND{}FabricationTestpoint[]NETSCOPE{}AnyNet[]LAYERKIND{}SameLayer[]NAME{}Schematic Fabrication Testpoint Style[]SIDE{}2[]TESTPOINTUNDERCOMPONENT{}TRUE[]MINSIZE{}40mil[]MAXSIZE{}100mil[]PREFEREDSIZE{}60mil[]MINHOLESIZE{}31.4961mil[]MAXHOLESIZE{}39.3701mil[]PREFEREDHOLESIZE{}35.4331mil[]TESTPOINTGRID{}1mil[]ALLOWSIDEBOTTOM{}TRUE[]USEGRID{}TRUE[]GRIDTOLERANCE{}0.01mil[]UNIT{}Metric[]PcbType{}ProtelPcb; Value: Testpoint; DNP: DNP
footprint TP_TH_3MM
pins: 1

## Testpoint_open_4
designator PAD?, comment Testpoint  (value not drawn)
Rule: UNIONINDEX{}0[]RULEKIND{}FabricationTestpoint[]NETSCOPE{}AnyNet[]LAYERKIND{}SameLayer[]NAME{}Schematic Fabrication Testpoint Style[]SIDE{}2[]TESTPOINTUNDERCOMPONENT{}TRUE[]MINSIZE{}40mil[]MAXSIZE{}100mil[]PREFEREDSIZE{}60mil[]MINHOLESIZE{}31.4961mil[]MAXHOLESIZE{}39.3701mil[]PREFEREDHOLESIZE{}35.4331mil[]TESTPOINTGRID{}1mil[]ALLOWSIDEBOTTOM{}TRUE[]USEGRID{}TRUE[]GRIDTOLERANCE{}0.01mil[]UNIT{}Metric[]PcbType{}ProtelPcb; Value: Testpoint; DNP: DNP
footprint TP_TH_3MM
pins: 1

## Testpoint_open_5
designator PAD_GND?, comment Testpoint  (value not drawn)
Rule: UNIONINDEX{}0[]RULEKIND{}FabricationTestpoint[]NETSCOPE{}AnyNet[]LAYERKIND{}SameLayer[]NAME{}Schematic Fabrication Testpoint Style[]SIDE{}2[]TESTPOINTUNDERCOMPONENT{}TRUE[]MINSIZE{}40mil[]MAXSIZE{}100mil[]PREFEREDSIZE{}60mil[]MINHOLESIZE{}31.4961mil[]MAXHOLESIZE{}39.3701mil[]PREFEREDHOLESIZE{}35.4331mil[]TESTPOINTGRID{}1mil[]ALLOWSIDEBOTTOM{}TRUE[]USEGRID{}TRUE[]GRIDTOLERANCE{}0.01mil[]UNIT{}Metric[]PcbType{}ProtelPcb; Value: Testpoint; DNP: DNP
footprint TP_TH_3MM
pins: 1

## TJA1027TK/20,118
designator U?, comment Manufacturer Part Number: TJA1027TK/20,118  (hidden comment: IC TRANSCEIVER 1/1 8HVSON)
1/1 Transceiver LINbus 8-HVSON (3x3); Order Code: DIGI: 568-13773-2-ND
footprint HVSON-8
pins: 1 RXD (out), 2 SLP_N, 3 NC, 4 TXD (in), 5 GND, 6 LIN, 7 VBAT, 8 NC, 9 EP

## TJA1051T/3
designator U?
IC TRANSCEIVER HALF 1/1 8SO; Manufacturer: NXP USA Inc.; Manufacturer Part Number: TJA1051T/3,118; Supplier Part Number: 568-8684-1-ND
footprint SOIC-8 150mil (PN: 23LC1024T-I/SN)
pins: 1 TXD (in), 2 GND (power), 3 VCC (power), 4 RXD (out), 5 VIO (power), 6 CANL (io), 7 CANH (io), 8 S (in)

## TLA2528IRTER
designator IC?
12 Bit Analog to Digital Converter 8 Input 1 SAR 16-WQFN (3x3); Manufacturer_Name: Texas Instruments; Datasheet Link: https://www.ti.com/lit/ds/symlink/tla2528.pdf?ts=1596615195592&ref_url=https%253A%252F%252Fwww.ti.com%252Fproduct%252FTLA2528%253Futm_source%253Dgoogle%2526utm_medium%253Dcpc%2526utm_campaign%253Dasc-null-null-gpn_en-cpc-pf-google-eu%2526utm_content%253Dt; Height: 0.8mm; Manufacturer_Part_Number: TLA2528IRTER; Mouser Part Number: 595-TLA2528IRTER; Mouser Price/Stock: https://www.mouser.co.uk/ProductDetail/Texas-Instruments/TLA2528IRTER?qs=%252B6g0mu59x7KfRzJN7APgZw%3D%3D; Arrow Part Number: TLA2528IRTER; Arrow Price/Stock: https://www.arrow.com/en/products/tla2528irter/texas-instruments?region=nac
footprint QFN50P300X300X80-17N-D
pins: 1 AIN2/GPIO2, 2 AIN3/GPIO3, 3 AIN4/GPIO4, 4 AIN5/GPIO5, 5 AIN6/GPIO6, 6 AIN7/GPIO7, 7 AVDD, 8 DECAP, 9 GND, 10 DVDD, 11 ADDR, 12 NC, 13 SCL, 14 SDA, 15 AIN0/GPIO0, 16 AIN1/GPIO1, 17 EP

## TLHG4400
designator D?
Green 569nm LED Indication - Discrete 2.4V Radial; MPN: TLHG4400; Supplier: Vishay Semiconductor Opto Division
footprint TLHG4400
pins: 1 K, 2 A

## TMUX4051PWR
designator U?
IC SWITCH SP8T X 1 40OHM 16TSSOP; Manufacturer: Texas Instruments; Manufacturer Part Number: TMUX4051PWR; Supplier Part Number: 296-TMUX4051PWRCT-ND
footprint TSSOP-16 (CHECKED BY NAME- 24FEB2020, CREATED BY: JE 400 040A)
pins: 1 S4 (io), 2 S6 (io), 3 D (io), 4 S7 (io), 5 S5 (io), 6 ~{EN} (in), 7 VSS (power), 8 GND (power), 9 A2 (in), 10 A1 (in), 11 A0 (in), 12 S3 (io), 13 S0 (io), 14 S1 (io), 15 S2 (io), 16 VDD (power)

## TMUX4052PWR
designator IC?
2 Circuit IC Switch 4:1 240Ohm 16-TSSOP; Manufacturer_Name: Texas Instruments; Datasheet Link: https://www.ti.com/lit/ds/symlink/tmux4052.pdf?ts=1676371866155&ref_url=https%253A%252F%252Fwww.ti.com%252Fproduct%252FTMUX4052; Height: 1.2mm; Manufacturer_Part_Number: TMUX4052PWR; Mouser Part Number: 595-TMUX4052PWR; Mouser Price/Stock: https://www.mouser.co.uk/ProductDetail/Texas-Instruments/TMUX4052PWR?qs=amGC7iS6iy8OsL8GnYryxg%3D%3D; Arrow Part Number: TMUX4052PWR; Arrow Price/Stock: https://www.arrow.com/en/products/tmux4052pwr/texas-instruments?region=nac
footprint SOP65P640X120-16N
pins: 1 S0B, 2 S2B, 3 DB, 4 S3B, 5 S1B, 6 ~{EN}, 7 VSS, 8 GND, 9 A1, 10 A0, 11 S3A, 12 S0A, 13 DA, 14 S1A, 15 S2A, 16 VDD

## TP
designator T?, comment SMD  (value not drawn)
DESIG: testing PAD; FAB: NA; VAL: NOT POPULATED; PCB Footprint: test0_8-smd; REF: NA
footprint TEST_POINT_SMD
pins: 1 TP

## TP_1
designator TP?, comment +5V0
footprint TEST_POINT
footprint TEST_POINT_TH
pins: 1 TP

## TP_1_1
designator TP?, comment +5V0
footprint TEST_POINT
footprint TEST_POINT_TH
pins: 1 TP

## TP_1_1_1
designator TP?, comment 32KHZ
footprint TEST_POINT
footprint TEST_POINT_TH
pins: 1 TP

## TP_1_1_2
designator TP?, comment 32KHZ
footprint TEST_POINT
footprint TEST_POINT_TH
pins: 1 TP

## TP_1_1_3
designator TP?, comment 32KHZ
footprint TEST_POINT
footprint TEST_POINT_TH
pins: 1 TP

## TP_1_1_4
designator TP?, comment 32KHZ
footprint TEST_POINT
footprint TEST_POINT_TH
pins: 1 TP

## TP_1_2
designator TP?
footprint TEST_POINT
footprint TEST_POINT_TH
pins: 1 TP

## TP_1_3
designator TP?
footprint TEST_POINT
footprint TEST_POINT_TH
pins: 1 TP

## TP_1_4
designator TP?
footprint TEST_POINT
footprint TEST_POINT_TH
pins: 1 TP

## TP_1_5
designator TP?
footprint TEST_POINT
footprint TEST_POINT_TH
pins: 1 TP

## TP_2
designator TP?, comment +1V5_DRAM
footprint TEST_POINT
footprint TEST_POINT_TH
pins: 1 TP

## TP_2_1
designator TP?, comment +1V5_DRAM
footprint TEST_POINT
footprint TEST_POINT_TH
pins: 1 TP

## TP_3
designator TP?, comment +1V8_LVDS
footprint TEST_POINT
footprint TEST_POINT_TH
pins: 1 TP

## TP_3_1
designator TP?, comment +1V8_LVDS
footprint TEST_POINT
footprint TEST_POINT_TH
pins: 1 TP

## TP_4
designator TP?, comment +3V3_SOC_EMMC
footprint TEST_POINT
footprint TEST_POINT_TH
pins: 1 TP

## TP_4_1
designator TP?, comment +3V3_SOC_EMMC
footprint TEST_POINT
footprint TEST_POINT_TH
pins: 1 TP

## TP_5
designator TP?, comment +0V95_VDD_CORE
footprint TEST_POINT
footprint TEST_POINT_TH
pins: 1 TP

## TP_5_1
designator TP?, comment +0V95_VDD_CORE
footprint TEST_POINT
footprint TEST_POINT_TH
pins: 1 TP

## TP_6
designator TP?, comment TVOUT0
footprint TEST_POINT
footprint TEST_POINT_TH
pins: 1 TP

## TP_6_1
designator TP?, comment TVOUT0
footprint TEST_POINT
footprint TEST_POINT_TH
pins: 1 TP

## TP_7
designator TP?, comment SMD  (value not drawn)
VAL: NOT POPULATED; REF: NA; DESIG: testing PAD; PCB Footprint: HOLE-TP0_9S16; FAB: NA
footprint HOLE-TP0_9S16
pins: 1 TP
text: PWR

## TP_7_1
designator TP?, comment ACC_DET
footprint TEST_POINT
footprint TEST_POINT_TH
pins: 1 TP

## TP_7_2
designator TP?, comment ACC_DET
footprint TEST_POINT
footprint TEST_POINT_TH
pins: 1 TP

## TP_8
designator TP?, comment REVERSE_DET
footprint TEST_POINT
footprint TEST_POINT_TH
pins: 1 TP

## TP_8_1
designator TP?, comment REVERSE_DET
footprint TEST_POINT
footprint TEST_POINT_TH
pins: 1 TP

## TP_9
designator TP?, comment RECAM_DET
footprint TEST_POINT
footprint TEST_POINT_TH
pins: 1 TP

## TP_9_1
designator TP?, comment RECAM_DET
footprint TEST_POINT
footprint TEST_POINT_TH
pins: 1 TP

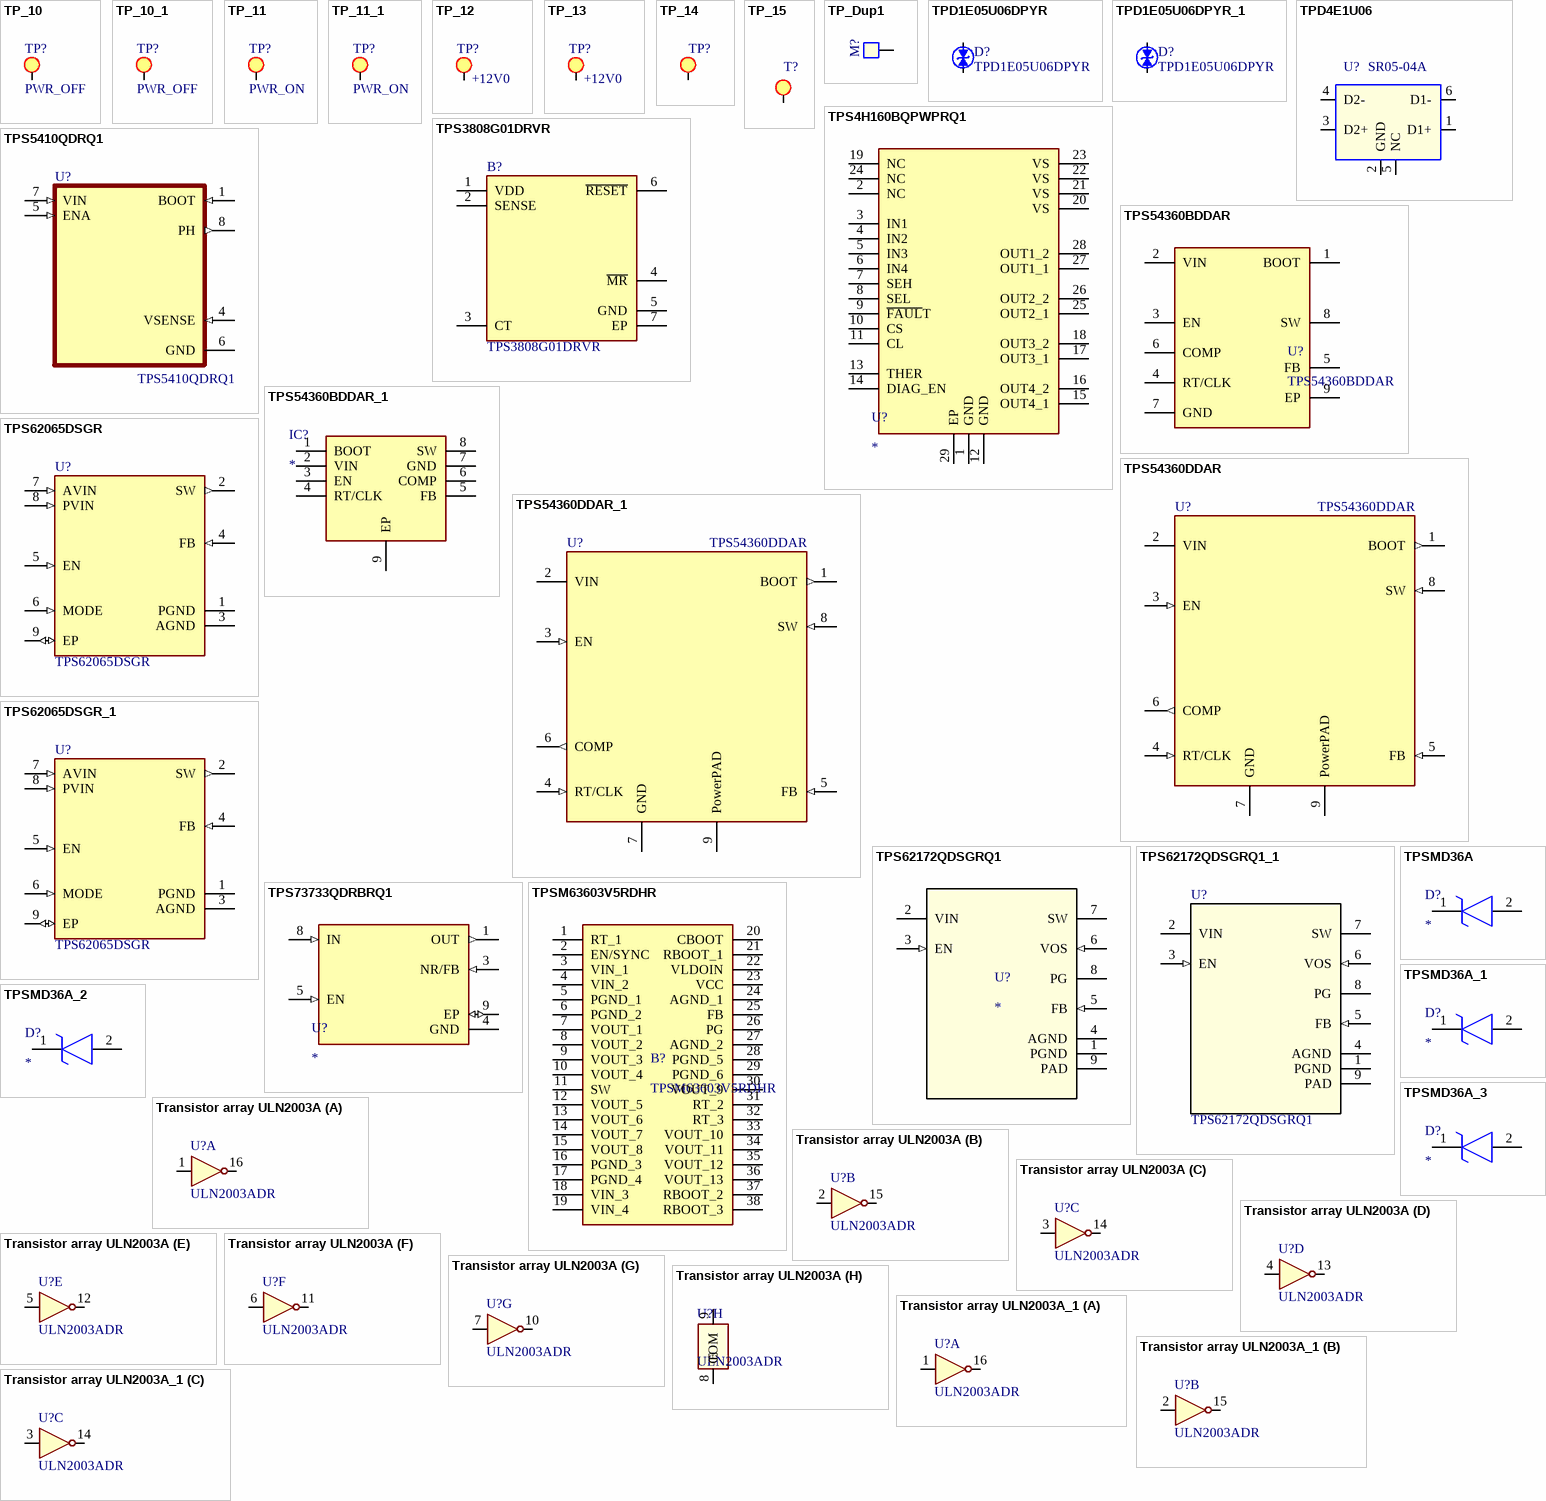
[diagram p48: symbols TP_10 to Transistor array ULN2003A_1]

## TP_10
designator TP?, comment PWR_OFF
footprint TEST_POINT
footprint TEST_POINT_TH
pins: 1 TP

## TP_10_1
designator TP?, comment PWR_OFF
footprint TEST_POINT
footprint TEST_POINT_TH
pins: 1 TP

## TP_11
designator TP?, comment PWR_ON
footprint TEST_POINT
footprint TEST_POINT_TH
pins: 1 TP

## TP_11_1
designator TP?, comment PWR_ON
footprint TEST_POINT
footprint TEST_POINT_TH
pins: 1 TP

## TP_12
designator TP?, comment +12V0
footprint TEST_POINT
footprint TEST_POINT_TH
pins: 1 TP

## TP_13
designator TP?, comment +12V0
footprint TEST_POINT
footprint TEST_POINT_TH
pins: 1 TP

## TP_14
designator TP?, comment Test Point  (value not drawn)  (no BOM)
footprint TEST_POINT
footprint TEST_POINT_TH
footprint TEST_POINT_SMD_0.5x3MM
pins: 1 TP

## TP_15
designator T?, comment SMD  (value not drawn)
DESIG: testing PAD; FAB: NA; VAL: NOT POPULATED; PCB Footprint: test0_8-smd; REF: NA
footprint TEST_POINT_SMD
pins: 1 TP

## TP_Dup1
designator M?, comment Mark Piont  (value not drawn)
PCB Footprint: id-board; VAL: NOT POPULATED; REF: NA; DESIG: testing PAD; FAB: NA
footprint TP
footprint id-board
pins: 1

## TPD1E05U06DPYR
designator D?, comment Manufacturer Part Number: TPD1E05U06DPYR  (hidden comment: TVS DIODE 5.5VWM 14VC 2X1SON)
14V Clamp 2.5A (8/20µs) Ipp Tvs Diode Surface Mount 2-X1SON (1x.60); Order Code: Digi: 296-39341-2-ND; LCSC Manufacturer Part Number: TPD1E05U06DPYR; LCSC Part Number: C436349
footprint D 0402(1005)
pins: 1 G "gate", 2 S "source"

## TPD1E05U06DPYR_1
designator D?, comment Manufacturer Part Number: TPD1E05U06DPYR  (hidden comment: TVS DIODE 5.5VWM 14VC 2X1SON)
14V Clamp 2.5A (8/20µs) Ipp Tvs Diode Surface Mount 2-X1SON (1x.60); Order Code: Digi: 296-39341-2-ND; LCSC Manufacturer Part Number: TPD1E05U06DPYR; LCSC Part Number: C436349
footprint D 0402(1005)
pins: 1 G "gate", 2 S "source"

## TPD4E1U06
designator U?, comment SR05-04A
IC,Quad-Channel,High-Speed ESD Protection Device,SMD,SOT23-6,UN; RP1 Manufacturer P/N: TPD4E1U06DBVR; RP1 Myir P/N: 20114.00004; Myir P/N: 20114.00013; Datasheet: SR05-04A.pdf; Reserve Value: SR05-04A; Manufacturer P/N: SR05-04A; Manufacturer: UN; Part Type: Protection; PCB Footprint: SOT23-6
footprint SOT23-6
pins: 1 D1+, 2 GND, 3 D2+, 4 D2-, 5 NC, 6 D1-

## TPS4H160BQPWPRQ1
designator U?
40-V, 160-mΩ, 4-ch automotive smart high-side switch with adjustable current limit; MPN: TPS4H160-Q1; Supplier: 595-TPS4H160BQPWPRQ1
footprint SOP65P640X120-29N
pins: 1 GND, 2 NC, 3 IN1, 4 IN2, 5 IN3, 6 IN4, 7 SEH, 8 SEL, 9 ~{FAUL}T, 10 CS, 11 CL, 12 GND, 13 THER, 14 DIAG_EN, 15 OUT4_1, 16 OUT4_2, 17 OUT3_1, 18 OUT3_2, 19 NC, 20 VS, 21 VS, 22 VS, 23 VS, 24 NC, 25 OUT2_1, 26 OUT2_2, 27 OUT1_1, 28 OUT1_2, 29 EP

## TPS3808G01DRVR
designator B?
Low-quiescent current supervisor with programmable-delay and manual reset; Manufacturer_Name: Texas Instruments; Geometry.Height: 0.8mm; Manufacturer Part Number: TPS3808G01DRVR; Mouser Part Number: 595-TPS3808G01DRVR; Mouser Price/Stock: https://www.mouser.co.uk/ProductDetail/Texas-Instruments/TPS3808G01DRVR?qs=nRD1PKnFC2FrHLBhWUTt4Q%3D%3D; Arrow Part Number: TPS3808G01DRVR; Arrow Price/Stock: https://www.arrow.com/en/products/tps3808g01drvr/texas-instruments?region=nac; Datasheet Link: http://www.ti.com/lit/gpn/tps3808
footprint SON65P200X200X80-7N
pins: 1 VDD, 2 SENSE, 3 CT, 4 ~{MR}, 5 GND, 6 ~{RESET}, 7 EP

## TPS5410QDRQ1
designator U?, comment Manufacturer Part Number: TPS5410QDRQ1  (hidden comment: IC REG BUCK ADJUSTABLE 1A 8SOIC)
Automotive 5.5V to 36V, 500kHz Fixed Frequency 1A Buck Converter 8-SOIC -40 to 125; MF: Texas Instruments; Value: *; Arrow_Electronics-Purchase-URL: https://snapeda.com/shop?store=Arrow+Electronics&id=1232664; Price: None; Availability: Good; Mouser-Purchase-URL: https://snapeda.com/shop?store=Mouser&id=1232664; Texas_Instruments-Purchase-URL: https://snapeda.com/shop?store=Texas+Instruments&id=1232664; SnapEDA_Link: https://www.snapeda.com/parts/TPS5410QDRQ1/Texas%20Instruments/view-part/1232664/?ref=snap; Package: SOIC-8 Texas Instruments
footprint SOIC127P599X175-8N
pins: 1 BOOT (in), 4 VSENSE (in), 5 ENA (in), 6 GND (power), 7 VIN (in), 8 PH (out)

## TPS54360BDDAR
designator U?
60-V input, 3.5-A, step-down DC/DC converter with Eco-Mode™ 8-SO PowerPAD -40 to 150; Manufacturer: Texas Instruments; Supplier 1: Digikey; Manufacturer Part Number: TPS54360BDDAR; RoHS: Yes; Category: Voltage Regulators - Switching; Stock 1: 2500; Pricing 1: 2500=2.34003 (USD); ComponentLink1URL: http://www.ti.com/general/docs/suppproductinfo.tsp?distId=10&amp;gotoUrl=http%3A%2F%2Fwww.ti.com%2Flit%2Fgpn%2Ftps54360b&src-supplier=Digikey; ComponentLink1Description: http://www.ti.com/general/docs/suppproductinfo.tsp?distId=10&amp;gotoUrl=http%3A%2F%2Fwww.ti.com%2Flit%2Fgpn%2Ftps54360b&src-supplier=Digikey; Supplier Part Number 1: 296-TPS54360BDDARTR-ND
footprint SOIC127P600X170-9N
pins: 1 BOOT, 2 VIN, 3 EN, 4 RT/CLK, 5 FB, 6 COMP, 7 GND, 8 SW, 9 EP

## TPS54360BDDAR_1
designator IC?
Integrated Circuit; Manufacturer_Name: Texas Instruments; Manufacturer_Part_Number: TPS54360BDDAR; Datasheet Link: http://www.ti.com/lit/gpn/TPS54360B; Height: 1.7mm; Mouser Part Number: 595-TPS54360BDDAR; Mouser Price/Stock: https://www.mouser.co.uk/ProductDetail/Texas-Instruments/TPS54360BDDAR?qs=l7cgNqFNU1iKlQpZ394odQ%3D%3D; Arrow Part Number: TPS54360BDDAR; Arrow Price/Stock: https://www.arrow.com/en/products/tps54360bddar/texas-instruments?region=nac
footprint SOIC127P600X170-9N
pins: 1 BOOT, 2 VIN, 3 EN, 4 RT/CLK, 5 FB, 6 COMP, 7 GND, 8 SW, 9 EP

## TPS54360DDAR
designator U?
Buck, Split Rail Switching Regulator IC Positive Adjustable 0.8V 1 Output 3.5A 8-PowerSOIC (0.154", 3.90mm Width); Order Code: Digi: 296-37676-2-ND; LCSC Manufacturer Part Number: TPS54360DDAR; LCSC Part Number: C44377; Manufacturer Part Number: TPS54360DDAR
footprint S8E_LT
pins: 1 BOOT (out), 2 VIN (power), 3 EN (in), 4 RT/CLK (in), 5 FB (in), 6 COMP (out), 7 GND (power), 8 SW (in), 9 PowerPAD (power)

## TPS54360DDAR_1
designator U?, comment TPS54360DDAR
Buck, Split Rail Switching Regulator IC Positive Adjustable 0.8V 1 Output 3.5A 8-PowerSOIC (0.154", 3.90mm Width); Order Code: Digi: 296-37676-2-ND; LCSC Manufacturer Part Number: TPS54360DDAR; LCSC Part Number: C44377; Manufacturer Part Number: TPS54360DDAR
footprint S8E_LT
pins: 1 BOOT (out), 2 VIN (power), 3 EN (in), 4 RT/CLK (in), 5 FB (in), 6 COMP (out), 7 GND (power), 8 SW (in), 9 PowerPAD (power)

## TPS62065DSGR
designator U?, comment Manufacturer Part Number: TPS62065DSGR  (hidden comment: IC REG BUCK ADJUSTABLE 2A 8WSON)
Buck Switching Regulator IC Positive Adjustable 0.8V 1 Output 2A 8-WFDFN Exposed Pad; Order Code: Digi: 296-39441-2-ND; LCSC Manufacturer Part Number: TPS62065DSGR; LCSC Part Number: C398352
footprint SON50P200X200X80-9N
pins: 1 PGND (power), 2 SW (out), 3 AGND (power), 4 FB (in), 5 EN (in), 6 MODE (in), 7 AVIN (in), 8 PVIN (in), 9 EP (io)

## TPS62065DSGR_1
designator U?, comment Manufacturer Part Number: TPS62065DSGR  (hidden comment: IC REG BUCK ADJUSTABLE 2A 8WSON)
Buck Switching Regulator IC Positive Adjustable 0.8V 1 Output 2A 8-WFDFN Exposed Pad; Order Code: Digi: 296-39441-2-ND; LCSC Manufacturer Part Number: TPS62065DSGR; LCSC Part Number: C398352
footprint SON50P200X200X80-9N
pins: 1 PGND (power), 2 SW (out), 3 AGND (power), 4 FB (in), 5 EN (in), 6 MODE (in), 7 AVIN (in), 8 PVIN (in), 9 EP (io)

## TPS62172QDSGRQ1
designator U?
No Description Available; Mfr_Name: Texas Instruments; PartNumber: TPS62172QDSGRQ1; Alternate_PartNumber: TPS62172QDSGTQ1; CompType: IC; TYPE: TYPE; RefDes: RefDes; Application_BuildNumber: *; PackageReference: DSG0008A; MountType: SMT; RoHS: Y; Manufacturer: Texas Instruments
footprint DSG0008A
pins: 1 PGND (power), 2 VIN (power), 3 EN (in), 4 AGND (power), 5 FB (in), 6 VOS (in), 7 SW (power), 8 PG (hiz), 9 PAD (power)

## TPS62172QDSGRQ1_1
designator U?, comment TPS62172QDSGRQ1
No Description Available; Mfr_Name: Texas Instruments; Alternate_PartNumber: TPS62172QDSGTQ1; CompType: IC; TYPE: TYPE; RefDes: RefDes; Application_BuildNumber: *; PartNumber: TPS62172QDSGRQ1; PackageReference: DSG0008A; MountType: SMT; RoHS: Y; Manufacturer: Texas Instruments
footprint DSG0008A
pins: 1 PGND (power), 2 VIN (power), 3 EN (in), 4 AGND (power), 5 FB (in), 6 VOS (in), 7 SW (power), 8 PG (hiz), 9 PAD (power)

## TPS73733QDRBRQ1
designator U?
Linear Voltage Regulator IC Positive Fixed 1 Output 1A 8-SON (3x3); MPN: TPS73733QDRBRQ1; Supplier: 296-24157-6-ND
footprint IC_DRV8601DRBT
pins: 1 OUT (out), 3 NR/FB (in), 4 GND (power), 5 EN (in), 8 IN (in), 9 EP (io)

## TPSM63603V5RDHR
designator B?
High-density, 3-V to 36-V input, 1-V to 16-V output, 3-A power module 30-B0QFN -40 to 125; Manufacturer: Texas Instruments; Supplier 1: Digikey; Manufacturer Part Number: TPSM63603V5RDHR; RoHS: No; Category: Integrated Circuits (ICs); Stock 1: 2582; Pricing 1: 1=8.77, 10=7.926, 25=7.5572, 100=6.562, 250=6.26704, 500=5.71408, 1000=4.97678 (USD); Supplier Part Number 1: 296-TPSM63603V5RDHRDKR-ND
footprint TPSM63603V5RDHR
pins: 1 RT_1, 2 EN/SYNC, 3 VIN_1, 4 VIN_2, 5 PGND_1, 6 PGND_2, 7 VOUT_1, 8 VOUT_2, 9 VOUT_3, 10 VOUT_4, 11 SW, 12 VOUT_5, 13 VOUT_6, 14 VOUT_7, 15 VOUT_8, 16 PGND_3, 17 PGND_4, 18 VIN_3, 19 VIN_4, 20 CBOOT, 21 RBOOT_1, 22 VLDOIN, 23 VCC, 24 AGND_1, 25 FB, 26 PG, 27 AGND_2, 28 PGND_5, 29 PGND_6, 30 VOUT_9, 31 RT_2, 32 RT_3, 33 VOUT_10, 34 VOUT_11, 35 VOUT_12, 36 VOUT_13, 37 RBOOT_2, 38 RBOOT_3

## TPSMD36A
designator D?
TVS Diode (Uni-directional); Manufacturer_Name: LITTELFUSE; Manufacturer_Part_Number: TPSMD36A; Datasheet Link: https://m.littelfuse.com/~/media/electronics/datasheets/tvs_diodes/littelfuse_tvs_diode_tpsmd_datasheet.pdf.pdf; Height: 2.62mm; Mouser Part Number: 576-TPSMD36A; Mouser Price/Stock: https://www.mouser.co.uk/ProductDetail/Littelfuse/TPSMD36A/?qs=aB6s9aM%2FkvTMcsXSVOJYGg%3D%3D; Arrow Part Number: TPSMD36A; Arrow Price/Stock: https://www.arrow.com/en/products/tpsmd36a/littelfuse
footprint DIOM7959X262N
pins: 1 K, 2 A

## TPSMD36A_1
designator D?
TVS Diode (Uni-directional); Manufacturer_Name: LITTELFUSE; Manufacturer_Part_Number: TPSMD36A; Datasheet Link: https://m.littelfuse.com/~/media/electronics/datasheets/tvs_diodes/littelfuse_tvs_diode_tpsmd_datasheet.pdf.pdf; Height: 2.62mm; Mouser Part Number: 576-TPSMD36A; Mouser Price/Stock: https://www.mouser.co.uk/ProductDetail/Littelfuse/TPSMD36A/?qs=aB6s9aM%2FkvTMcsXSVOJYGg%3D%3D; Arrow Part Number: TPSMD36A; Arrow Price/Stock: https://www.arrow.com/en/products/tpsmd36a/littelfuse
footprint DIOM7959X262N
pins: 1 K, 2 A

## TPSMD36A_2
designator D?
TVS Diode (Uni-directional); Manufacturer_Name: LITTELFUSE; Manufacturer_Part_Number: TPSMD36A; Datasheet Link: https://m.littelfuse.com/~/media/electronics/datasheets/tvs_diodes/littelfuse_tvs_diode_tpsmd_datasheet.pdf.pdf; Height: 2.62mm; Mouser Part Number: 576-TPSMD36A; Mouser Price/Stock: https://www.mouser.co.uk/ProductDetail/Littelfuse/TPSMD36A/?qs=aB6s9aM%2FkvTMcsXSVOJYGg%3D%3D; Arrow Part Number: TPSMD36A; Arrow Price/Stock: https://www.arrow.com/en/products/tpsmd36a/littelfuse
footprint DIOM7959X262N
pins: 1 K, 2 A

## TPSMD36A_3
designator D?
TVS Diode (Uni-directional); Manufacturer_Name: LITTELFUSE; Manufacturer_Part_Number: TPSMD36A; Datasheet Link: https://m.littelfuse.com/~/media/electronics/datasheets/tvs_diodes/littelfuse_tvs_diode_tpsmd_datasheet.pdf.pdf; Height: 2.62mm; Mouser Part Number: 576-TPSMD36A; Mouser Price/Stock: https://www.mouser.co.uk/ProductDetail/Littelfuse/TPSMD36A/?qs=aB6s9aM%2FkvTMcsXSVOJYGg%3D%3D; Arrow Part Number: TPSMD36A; Arrow Price/Stock: https://www.arrow.com/en/products/tpsmd36a/littelfuse
footprint DIOM7959X262N
pins: 1 K, 2 A

## Transistor array ULN2003A
designator U?, comment ULN2003ADR
IC PWR RELAY 7NPN 1:1 16SOIC; Manufacturer: Texas Instruments; Value: ULN2003ADR; Manufacturer Part Number: ULN2003ADR; Supplier Part Number: 296-1368-1-ND
footprint SOIC-16 - W3.9mm (SI8631AB-B-IS1)
part A pins: 1 1B, 16 2C
part B pins: 2 2B, 15 2C
part C pins: 3 3B, 14 3C
part D pins: 4 4B, 13 4C
part E pins: 5 5B, 12 5C
part F pins: 6 6B, 11 6C
part G pins: 7 7B, 10 7C
part H pins: 8 E, 9 COM

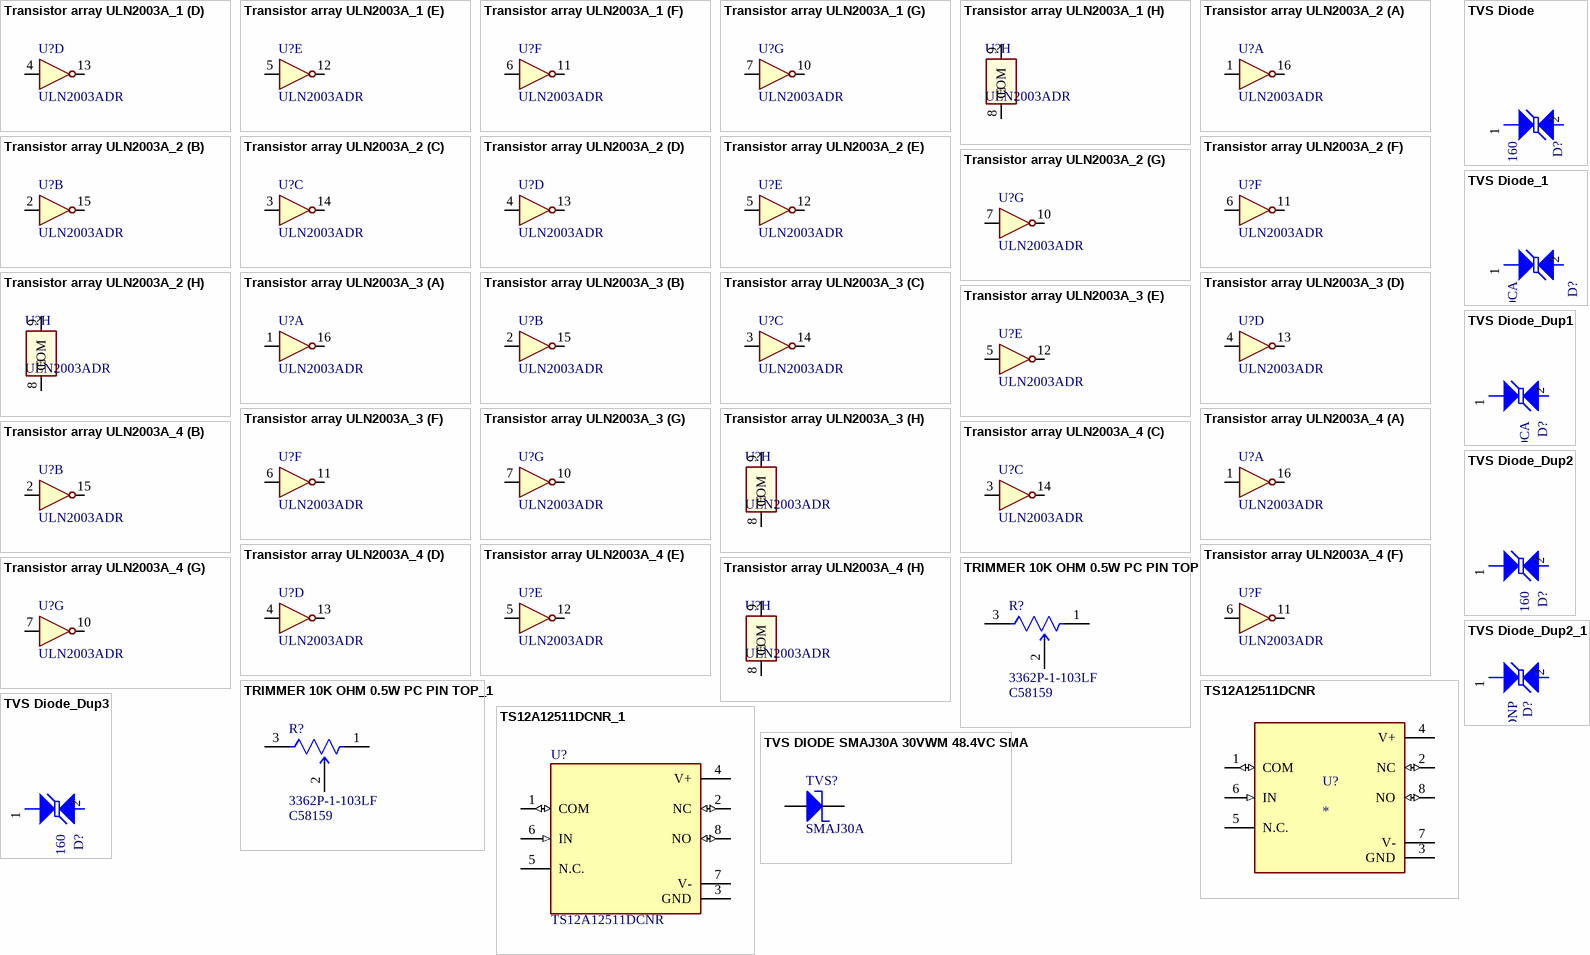
[diagram p49: symbols Transistor array ULN2003A_1 to TVS Diode_Dup3]

## Transistor array ULN2003A_1
designator U?, comment ULN2003ADR
IC PWR RELAY 7NPN 1:1 16SOIC; Manufacturer: Texas Instruments; Value: ULN2003ADR; Manufacturer Part Number: ULN2003ADR; Supplier Part Number: 296-1368-1-ND
footprint SOIC-16 - W3.9mm (SI8631AB-B-IS1)
part A pins: 1 1B, 16 2C
part B pins: 2 2B, 15 2C
part C pins: 3 3B, 14 3C
part D pins: 4 4B, 13 4C
part E pins: 5 5B, 12 5C
part F pins: 6 6B, 11 6C
part G pins: 7 7B, 10 7C
part H pins: 8 E, 9 COM

## Transistor array ULN2003A_2
designator U?, comment ULN2003ADR
IC PWR RELAY 7NPN 1:1 16SOIC; Manufacturer: Texas Instruments; Value: ULN2003ADR; Manufacturer Part Number: ULN2003ADR; Supplier Part Number: 296-1368-1-ND
footprint SOIC-16 - W3.9mm (SI8631AB-B-IS1)
part A pins: 1 1B, 16 2C
part B pins: 2 2B, 15 2C
part C pins: 3 3B, 14 3C
part D pins: 4 4B, 13 4C
part E pins: 5 5B, 12 5C
part F pins: 6 6B, 11 6C
part G pins: 7 7B, 10 7C
part H pins: 8 E, 9 COM

## Transistor array ULN2003A_3
designator U?, comment ULN2003ADR
IC PWR RELAY 7NPN 1:1 16SOIC; Manufacturer: Texas Instruments; Value: ULN2003ADR; Manufacturer Part Number: ULN2003ADR; Supplier Part Number: 296-1368-1-ND
footprint SOIC-16 - W3.9mm (SI8631AB-B-IS1)
part A pins: 1 1B, 16 2C
part B pins: 2 2B, 15 2C
part C pins: 3 3B, 14 3C
part D pins: 4 4B, 13 4C
part E pins: 5 5B, 12 5C
part F pins: 6 6B, 11 6C
part G pins: 7 7B, 10 7C
part H pins: 8 E, 9 COM

## Transistor array ULN2003A_4
designator U?, comment ULN2003ADR
IC PWR RELAY 7NPN 1:1 16SOIC; Manufacturer: Texas Instruments; Value: ULN2003ADR; Manufacturer Part Number: ULN2003ADR; Supplier Part Number: 296-1368-1-ND
footprint SOIC-16 - W3.9mm (SI8631AB-B-IS1)
part A pins: 1 1B, 16 2C
part B pins: 2 2B, 15 2C
part C pins: 3 3B, 14 3C
part D pins: 4 4B, 13 4C
part E pins: 5 5B, 12 5C
part F pins: 6 6B, 11 6C
part G pins: 7 7B, 10 7C
part H pins: 8 E, 9 COM

## TRIMMER 10K OHM 0.5W PC PIN TOP
designator R?  Manufacturer Part Number: 3362P-1-103LF  LCSC Part Number: C58159  (hidden comment: TRIMMER 10K OHM 0.5W PC PIN TOP)
10 kOhms 0.5W, 1/2W PC Pins Through Hole Trimmer Potentiometer Cermet 1.0 Turn Top Adjustment
footprint Bourns_3386P_MFG
pins: 1 CCW, 2 WIPER, 3 CW

## TRIMMER 10K OHM 0.5W PC PIN TOP_1
designator R?, comment Manufacturer Part Number: 3362P-1-103LF  LCSC Part Number: C58159  (hidden comment: TRIMMER 10K OHM 0.5W PC PIN TOP)
10 kOhms 0.5W, 1/2W PC Pins Through Hole Trimmer Potentiometer Cermet 1.0 Turn Top Adjustment
footprint Bourns_3386P_MFG
pins: 1 CCW, 2 WIPER, 3 CW

## TS12A12511DCNR
designator U?
12-V, 2:1 (SPDT), 1-channel analog switch with negative signaling capability; MF: Texas Instruments; MP: TS12A12511DCNR; SnapEDA_Link: https://www.snapeda.com/parts/TS12A12511DCNR/Texas+Instruments/view-part/?ref=snap; Package: SOT-23-8 Texas Instruments; Value: *; Check_prices: https://www.snapeda.com/parts/TS12A12511DCNR/Texas+Instruments/view-part/?ref=eda
footprint SOT65P280X145-8N
pins: 1 COM (io), 2 NC (io), 3 GND (power), 4 V+ (power), 5 N.C., 6 IN (in), 7 V- (power), 8 NO (io)

## TS12A12511DCNR_1
designator U?, comment TS12A12511DCNR
12-V, 2:1 (SPDT), 1-channel analog switch with negative signaling capability; MF: Texas Instruments; SnapEDA_Link: https://www.snapeda.com/parts/TS12A12511DCNR/Texas+Instruments/view-part/?ref=snap; Package: SOT-23-8 Texas Instruments; Value: *; MP: TS12A12511DCNR; Check_prices: https://www.snapeda.com/parts/TS12A12511DCNR/Texas+Instruments/view-part/?ref=eda
footprint SOT65P280X145-8N
pins: 1 COM (io), 2 NC (io), 3 GND (power), 4 V+ (power), 5 N.C., 6 IN (in), 7 V- (power), 8 NO (io)

## TVS Diode
designator D?, comment B72590D50H160
Diode,TVS,5.6VDC,SMD,D0402,TDK; Myir P/N: 20701.00001; Part Type: Diode; Manufacturer: TDK; Manufacturer P/N: B72590D50H160; Reserve Value: B72590D50H160; Datasheet: B72590D0050H160.pdf; PCB Footprint: D0402
footprint L16214
footprint D0402
pins: 1, 2

## TVS DIODE SMAJ30A 30VWM 48.4VC SMA
designator TVS?  value SMAJ30A  (hidden comment: TVS DIODE SMAJ30A 30VWM 48.4VC SMA)
Manufacturer: LITTELFUSE; Code: 3040004; Family: DIODE; Manufacturer Part Name: SMAJ30A; Package Reference: DO214AC; Supplier: Digikey; Supplier No: SMAJ30ALFDKR-ND
footprint DO214AC (DO-214-AC/SMA; 2 C-Bend Leads; Body 5.3 x 2.6 mm, inc. leads (LxW))
pins: 1 A, 2 K

## TVS Diode_1
designator D?, comment SMBJ6.0CA
Diode, TVS Bi-Dir 6V 600W, DO-214AA(SMB); Manufacturer: UN; Myir P/N: 20701.00028; PCB Footprint: DO-214AA; Part Type: Diode; Manufacturer P/N: SMBJ6.0CA; Reserve Value: SMBJ6.0CA; Datasheet: SMBJ6.0C.pdf
footprint L16214
footprint DO-214AA
pins: 1, 2

## TVS Diode_Dup1
designator D?, comment SMBJ6.0CA
Diode, TVS Bi-Dir 6V 600W, DO-214AA(SMB); Manufacturer: UN; Myir P/N: 20701.00028; Datasheet: SMBJ6.0C.pdf; Reserve Value: SMBJ6.0CA; Manufacturer P/N: SMBJ6.0CA; Part Type: Diode; PCB Footprint: do-214aa
footprint L16214
footprint do-214aa
pins: 1, 2

## TVS Diode_Dup2
designator D?, comment B72590D50H160
Diode,TVS,5.6VDC,SMD,D0402,TDK; Myir P/N: 20701.00001; Datasheet: B72590D0050H160.pdf; Reserve Value: B72590D50H160; Manufacturer P/N: B72590D50H160; Manufacturer: TDK; Part Type: Diode; PCB Footprint: D0402
footprint L16214
footprint D0402
pins: 1, 2

## TVS Diode_Dup2_1
designator D?, comment DNP
Diode,TVS,5.6VDC,SMD,D0402,TDK; Manufacturer P/N: B72590D50H160; Myir P/N: 20701.00001; Part Type: Diode; Manufacturer: TDK; Reserve Value: B72590D50H160; Datasheet: B72590D0050H160.pdf; PCB Footprint: D0402
footprint L16214
footprint D0402
pins: 1, 2

## TVS Diode_Dup3
designator D?, comment B72590D50H160
Diode,TVS,5.6VDC,SMD,D0402,TDK; Myir P/N: 20701.00001; PCB Footprint: D0402; Part Type: Diode; Manufacturer: TDK; Manufacturer P/N: B72590D50H160; Reserve Value: B72590D50H160; Datasheet: B72590D0050H160.pdf
footprint L16214
footprint D0402
pins: 1, 2

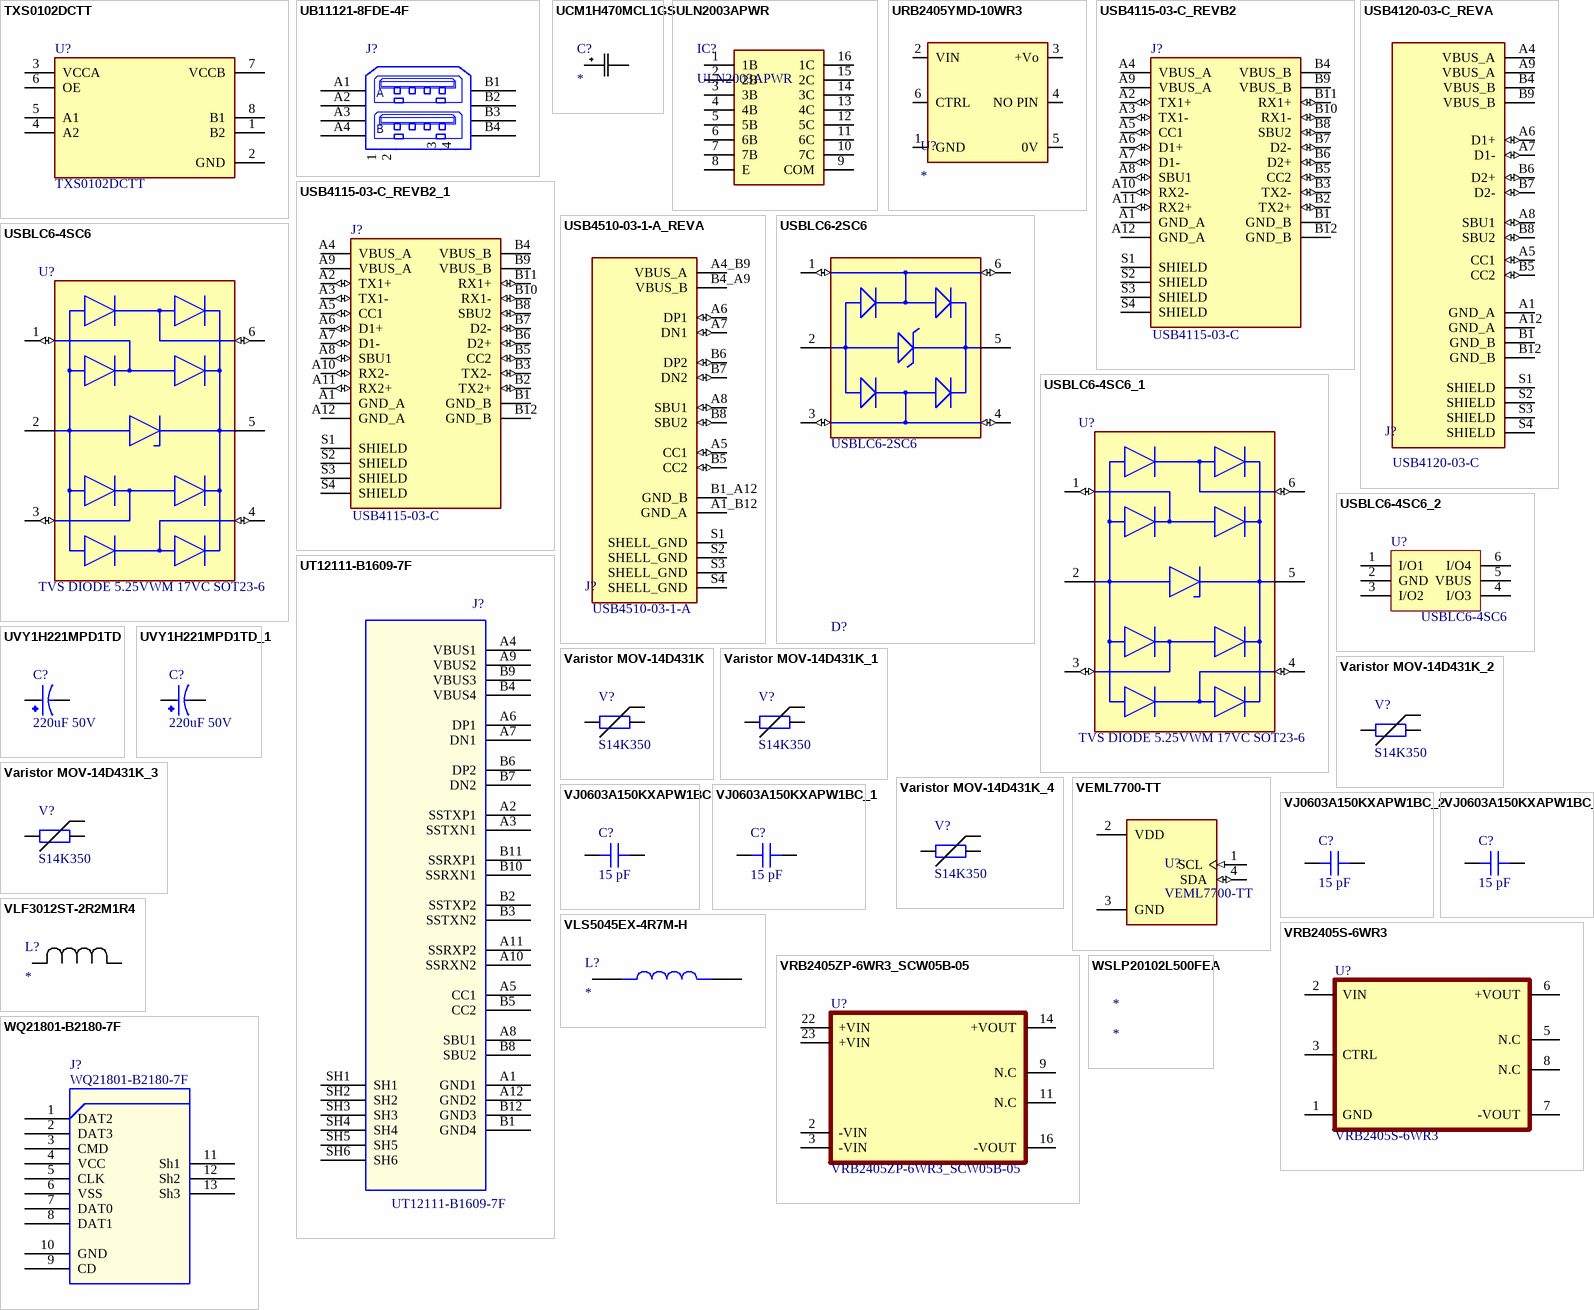
[diagram p50: symbols TXS0102DCTT to WSLP20102L500FEA]

## TXS0102DCTT
designator U?
2-Bit Bidirectional Voltage-Level Shifter for Open-Drain and Push-Pull Application; Manufacturer_Name: Texas Instruments; Geometry.Height: 1.3mm; Manufacturer Part Number: TXS0102DCTT; Mouser Part Number: 595-TXS0102DCTT; Mouser Price/Stock: https://www.mouser.co.uk/ProductDetail/Texas-Instruments/TXS0102DCTT?qs=BWabSxB1G9dXmadXua3JhQ%3D%3D; Arrow Part Number: TXS0102DCTT; Arrow Price/Stock: https://www.arrow.com/en/products/txs0102dctt/texas-instruments?region=nac; Datasheet Link: https://www.ti.com/lit/gpn/TXS0102
footprint SOP65P400X130-8N
pins: 1 B2, 2 GND, 3 VCCA, 4 A2, 5 A1, 6 OE, 7 VCCB, 8 B1

## UB11121-8FDE-4F
designator J?  (value not drawn)
Connector,Double-USB A,Female,Right angle,4Pos,4.13mm,1u¡±MIN Gold Plate,-55~85¡æ,Foxconn; Myir P/N: 21121.00004; Datasheet: DUSB_A_Foxconn_UB11121-8FDE-4F.pdf; Reserve Value: UB11121-8FDE-4F; Manufacturer P/N: UB11121-8FDE-4F; Manufacturer: Foxconn; Part Type: USB Connector; PCB Footprint: UB11121-8FDE-4F
footprint CON_USBDUAL72309
footprint UB11121-8FDE-4F
pins: 1 BODY1, 2 BODY2, 3 BODY3, 4 BODY4, A1 VCC (power), A2 USBHMA, A3 USBHPA, A4 GND (power), B1 VCC (power), B2 USBHMB, B3 USBHPB, B4 GND (power)
text: A; B

## UCM1H470MCL1GS
designator C?
47 µF 50 V Aluminum Electrolytic Capacitors Radial, Can - SMD 2000 Hrs @ 105°C; Mfr_Name: Nichicon
footprint CAP_UCD_6P3X5P8_NCH
pins: 1, 2

## ULN2003APWR
designator IC?
TRAN 7NPN DARL 50V 0.5A 16TSSOP; Manufacturer_Name: Texas Instruments; Datasheet Link: http://www.ti.com/lit/gpn/uln2003a; Height: 1.2mm; Manufacturer_Part_Number: ULN2003APWR; Mouser Part Number: 595-ULN2003APWR; Mouser Price/Stock: https://www.mouser.co.uk/ProductDetail/Texas-Instruments/ULN2003APWR?qs=pbofycSuseM4frKhBfKqYw%3D%3D; Arrow Part Number: ULN2003APWR; Arrow Price/Stock: https://www.arrow.com/en/products/uln2003apwr/texas-instruments?utm_currency=USD&region=europe
footprint SOP65P640X120-16N
pins: 1 1B, 2 2B, 3 3B, 4 4B, 5 5B, 6 6B, 7 7B, 8 E, 9 COM, 10 7C, 11 6C, 12 5C, 13 4C, 14 3C, 15 2C, 16 1C